# Altium schematic symbol library Altium_Library_Design.SchLib: 234 symbols (part 1 of 2)
Pins are listed as number, name and electrical type; pins without a type are passive.

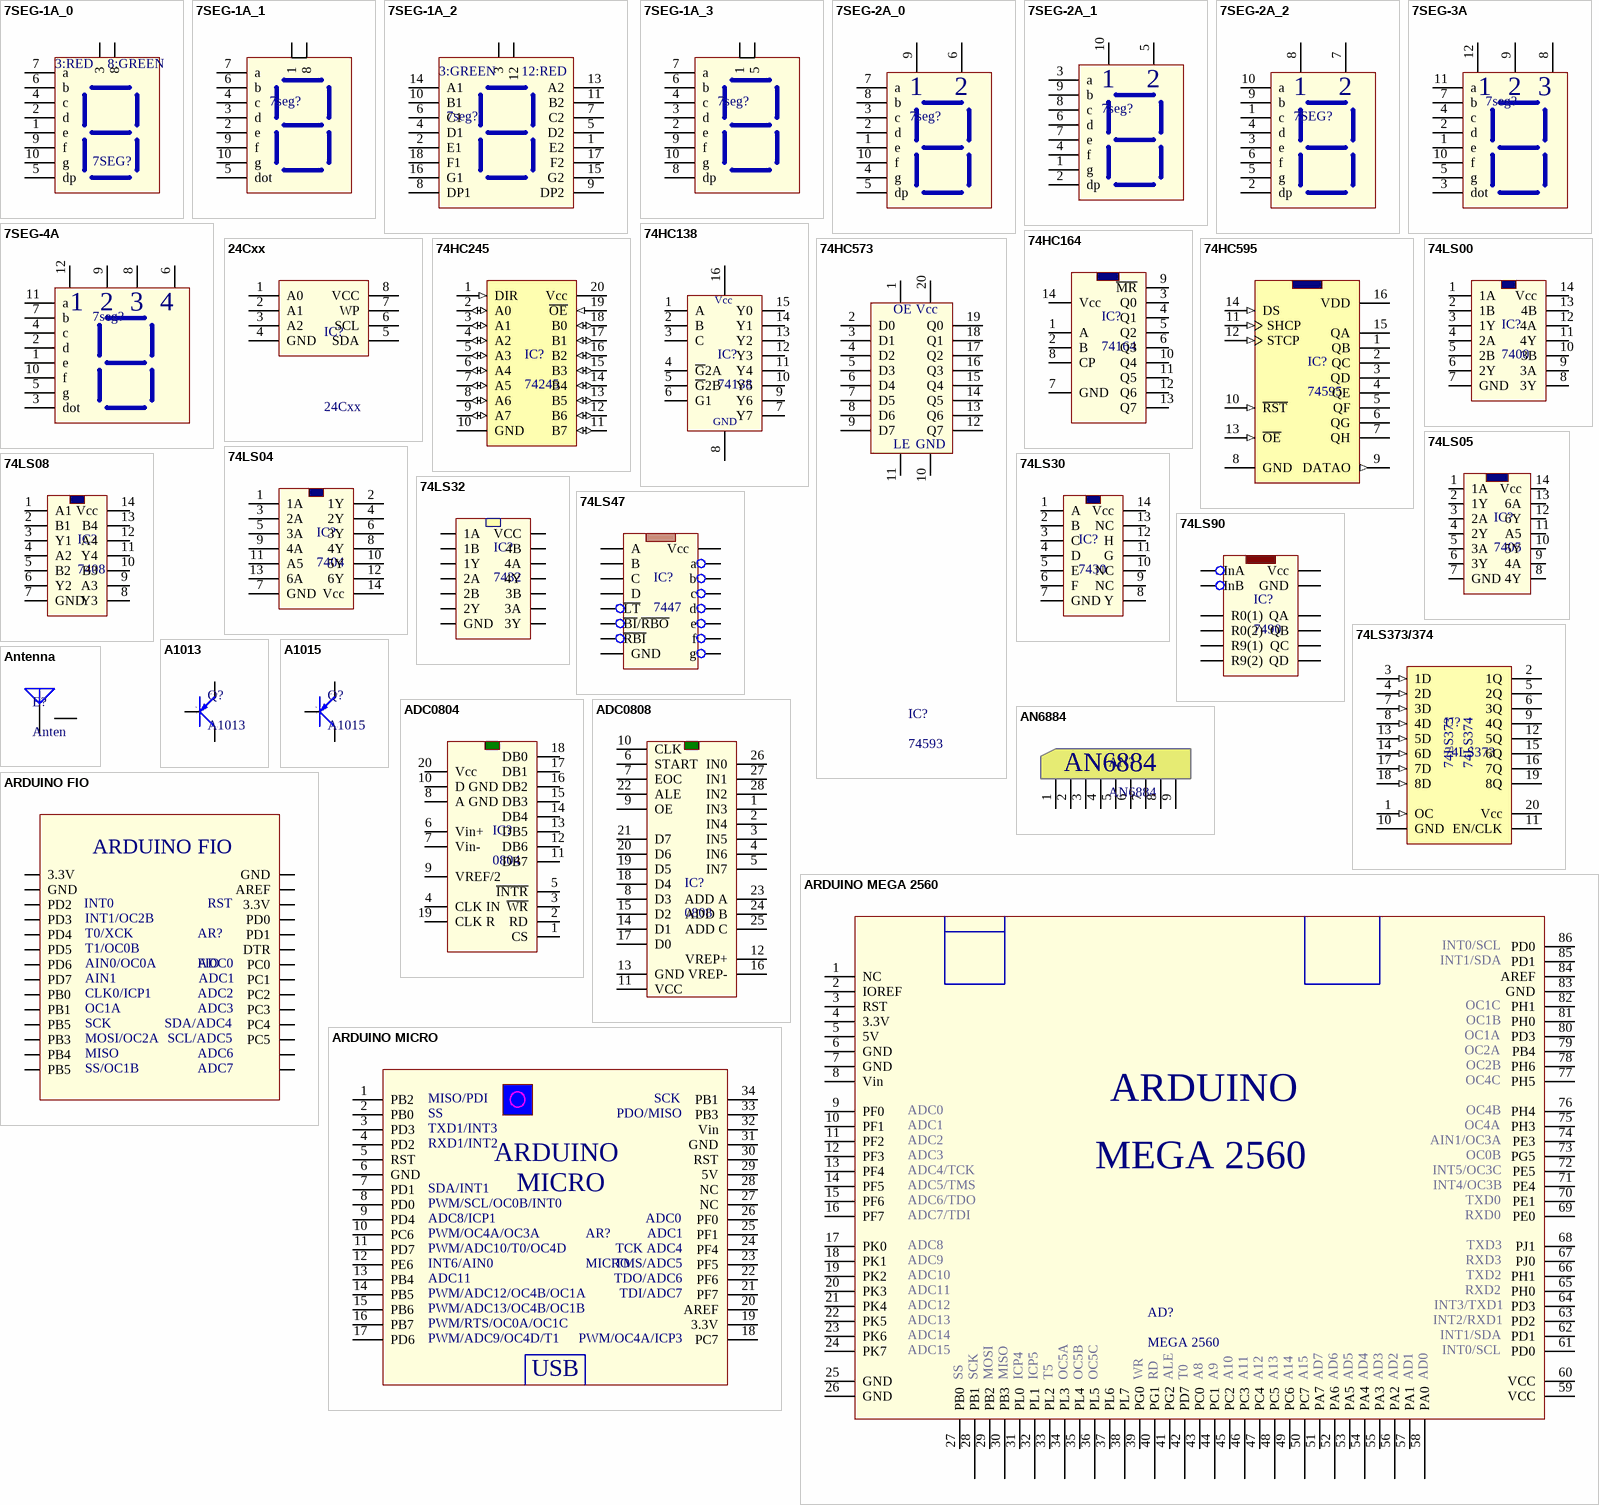
[diagram p0: symbols 7SEG-1A_0 to ARDUINO MICRO]

## 7SEG-1A_0
designator 7SEG?, comment 7seg  (value not drawn)
3,8 CHUNG
footprint 7SEG-4-1A (9V)
footprint 7SEG-1-1A (1.8-2V)
footprint 7SEG-0.8-1A (3-3.6V)
footprint 7SEG-0.56-1A (1.8-2V)
pins: 1 e, 2 d, 3, 4 c, 5 dp, 6 b, 7 a, 8, 9 f, 10 g
text: 3:RED; 8:GREEN

## 7SEG-1A_1
designator 7seg?, comment 5IN-1A  (value not drawn)
1,8 CHUNG
footprint 7SEG-5-1A (12V)
pins: 1, 2 e, 3 d, 4 c, 5 dot, 6 b, 7 a, 8, 9 f, 10 g

## 7SEG-1A_2
designator 7seg?, comment 7seg  (value not drawn)
3,12CHUNG
footprint 7SEG-3-1A-77.6 (2,8-3,1V)
pins: 1 E2, 2 E1, 3, 4 D1, 5 D2, 6 C1, 7 C2, 8 DP1, 9 DP2, 10 B1, 11 B2, 12, 13 A2, 14 A1, 15 G2, 16 G1, 17 F2, 18 F1
text: 3:GREEN; 12:RED

## 7SEG-1A_3
designator 7seg?, comment 7seg  (value not drawn)
1,5 CHUNG
footprint 7SEG-2.3-1A (7.2V)
footprint 7SEG-1.8-1A (6V)
footprint 7SEG-1.5-1A (4V)
footprint 7SEG-1.2-1A (2.8-3.1V)
footprint 7SEG-3-1A-78.5 (7,2V)
footprint 7SEG-3-1A-81.3 (7,2V)
pins: 1, 2 e, 3 d, 4 c, 5, 6 b, 7 a, 8 dp, 9 f, 10 g

## 7SEG-2A_0
designator 7seg?, comment 7seg  (value not drawn)
9,6 CHUNG
footprint 7SEG-0.28-2A (1.8V)
pins: 1 e, 2 d, 3 c, 4 g, 5 dp, 6, 7 a, 8 b, 9, 10 f

## 7SEG-2A_1
designator 7seg?, comment 7seg  (value not drawn)
10,5 CHUNG
footprint 7SEG-0.36-2A
pins: 1 g, 2 dp, 3 a, 4 f, 5, 6 d, 7 e, 8 c, 9 b, 10

## 7SEG-2A_2
designator 7SEG?, comment 7SEG  (value not drawn)
8,7 CHUNG
footprint 7SEG-0.56-2A (1.8-2V)
pins: 1 c, 2 dp, 3 e, 4 d, 5 g, 6 f, 7, 8, 9 b, 10 a

## 7SEG-3A
designator 7seg?, comment 7seg  (value not drawn)
12,9,8 CHUNG
footprint 7SEG-0.28-3A (1.8V)
footprint 7SEG-0.36-3A-8.5
footprint 7SEG-0.36-3A-15.24
footprint 7SEG-0.56-3A (1.8-2V)
pins: 1 e, 2 d, 3 dot, 4 c, 5 g, 7 b, 8, 9, 10 f, 11 a, 12

## 7SEG-4A
designator 7seg?, comment 7seg  (value not drawn)
12,9,8,6 CHUNG
footprint 7SEG-0.28-4A (1.8V)
footprint 7SEG-0.36-4A
footprint 7SEG-0.56-4A (Footprint not found)
pins: 1 e, 2 d, 3 dot, 4 c, 5 g, 6, 7 b, 8, 9, 10 f, 11 a, 12

## 24Cxx
designator IC?
Serial EEPROM; Value: DIP 8; Value: 24Cxx; Copyright by: VanDungEvn
footprint DIP8-V0-Package
pins: 1 A0, 2 A1, 3 A2, 4 GND (power), 5 SDA, 6 SCL, 7 WP, 8 VCC (power)

## 74HC138
designator IC?, comment 74138
IN 3 --> OUT 8
footprint DIP16-V0-Package
pins: 1 A, 2 B, 3 C, 4 ~{G}2A, 5 ~{G}2B, 6 G1, 7 Y7, 8 GND (power), 9 Y6, 10 Y5, 11 Y4, 12 Y3, 13 Y2, 14 Y1, 15 Y0, 16 VCC (power)
text: Vcc

## 74HC164
designator IC?, comment 74164
footprint DIP14-V0-Package
pins: 1 A, 2 B, 3 Q0, 4 Q1, 5 Q2, 6 Q3, 7 GND, 8 CP, 9 ~{MR}, 10 Q4, 11 Q5, 12 Q6, 13 Q7, 14 Vcc

## 74HC245
designator IC?, comment 74245
footprint DIP20-V0-Package
pins: 1 DIR (in), 2 A0 (io), 3 A1 (io), 4 A2 (io), 5 A3 (io), 6 A4 (io), 7 A5 (io), 8 A6 (io), 9 A7 (io), 10 GND (power), 11 B7 (io), 12 B6 (io), 13 B5 (io), 14 B4 (io), 15 B3 (io), 16 B2 (io), 17 B1 (io), 18 B0 (io), 19 ~{OE} (in), 20 Vcc (power)

## 74HC573
designator IC?, comment 74593
footprint DIP20-V0-Package
pins: 1 ~{OE}, 2 D0, 3 D1, 4 D2, 5 D3, 6 D4, 7 D5, 8 D6, 9 D7, 10 GND (power), 11 LE, 12 Q7, 13 Q6, 14 Q5, 15 Q4, 16 Q3, 17 Q2, 18 Q1, 19 Q0, 20 Vcc (power)
text: OE

## 74HC595
designator IC?, comment 74595
IC ghi dich; 74HC573: giai ma; 74HC595: ghi dich
footprint DIP16-V0-Package
pins: 1 QB (hiz), 2 QC (hiz), 3 QD (hiz), 4 QE (hiz), 5 QF (hiz), 6 QG (hiz), 7 QH (hiz), 8 GND (power), 9 DATAO (out), 10 ~{RST} (in), 11 SHCP (in), 12 STCP (in), 13 ~{OE} (in), 14 DS (in), 15 QA (hiz), 16 VDD (power)

## 74LS00
designator IC?, comment 7400
NAND 2 input
footprint DIP14-V0-Package
pins: 1 1A, 2 1B, 3 1Y, 4 2A, 5 2B, 6 2Y, 7 GND, 8 3Y, 9 3A, 10 3B, 11 4Y, 12 4A, 13 4B, 14 Vcc

## 74LS04
designator IC?, comment 7404
NOT; 74LS04: NOT; 74LS05: NOT; 74LS06: NOT
footprint DIP14-V0-Package
footprint DIP14-V1-Package
pins: 1 1A, 2 1Y, 3 2A, 4 2Y, 5 3A, 6 3Y, 7 GND, 8 4Y, 9 4A, 10 5Y, 11 A5, 12 6Y, 13 6A, 14 Vcc

## 74LS05
designator IC?, comment 7405
NOT; 74LS04: NOT; 74LS05: NOT; 74LS06: NOT
footprint DIP14-V0-Package
footprint DIP14-V1-Package
pins: 1 1A, 2 1Y, 3 2A, 4 2Y, 5 3A, 6 3Y, 7 GND, 8 4Y, 9 4A, 10 5Y, 11 A5, 12 6Y, 13 6A, 14 Vcc

## 74LS08
designator IC?, comment 7408
AND 2 input
footprint DIP14-V0-Package
footprint DIP14-V1-Package
pins: 1 A1, 2 B1, 3 Y1, 4 A2, 5 B2, 6 Y2, 7 GND, 8 Y3, 9 A3, 10 B3, 11 Y4, 12 A4, 13 B4, 14 Vcc

## 74LS30
designator IC?, comment 7430
NAND 8 input
footprint DIP14-V0-Package
footprint DIP14-V1-Package
pins: 1 A, 2 B, 3 C, 4 D, 5 E, 6 F, 7 GND, 8 Y, 9 NC, 10 NC, 11 G, 12 H, 13 NC, 14 Vcc

## 74LS32
designator IC?, comment 7432
OR 2 INPUT
footprint DIP14-V0-Package
footprint DIP14-V1-Package
pins: 1 1A, 2 1B, 3 1Y, 4 2A, 5 2B, 6 2Y, 7 GND, 8 3Y, 9 3A, 10 3B, 11 4Y, 12 4A, 13 4B, 14 VCC

## 74LS47
designator IC?, comment 7447
Decoder BCD --> 7seg
footprint DIP16-V0-Package
pins: 1 B, 2 C, 3 ~{LT}, 4 ~{BI}/~{RBO}, 5 ~{RBI}, 6 D, 7 A, 8 GND, 9 e, 10 d, 11 c, 12 b, 13 a, 14 g, 15 f, 16 Vcc

## 74LS90
designator IC?, comment 7490
Count binary withKd = 10
footprint DIP14-V0-Package
footprint DIP14-V1-Package
pins: 1 InB, 2 R0(1), 3 R0(2), 5 Vcc, 6 R9(1), 7 R9(2), 8 QC, 9 QB, 10 GND, 11 QD, 12 QA, 14 InA

## 74LS373/374
designator U?, comment 74LS373
IC buffer
footprint DIP20-V0-Package
pins: 1 OC (in), 2 1Q (oc), 3 1D (in), 4 2D (in), 5 2Q (oc), 6 3Q (oc), 7 3D (in), 8 4D (in), 9 4Q (oc), 10 GND, 11 EN/CLK, 12 5Q (oc), 13 5D (in), 14 6D (in), 15 6Q (oc), 16 7Q (oc), 17 7D (in), 18 8D (in), 19 8Q (power), 20 Vcc
text: 74LS374

## A1013
designator Q?
PNP E-->C
footprint TO-92
pins: 1 E, 2 C, 3 B

## A1015
designator Q?
PNP E-->C
footprint TO-92
pins: 1 E, 2 C, 3 B

## ADC0804
designator IC?, comment 0804
footprint DIP20-V0-Package
pins: 1 CS, 2 RD, 3 ~{WR}, 4 CLK IN, 5 ~{INTR}, 6 Vin+, 7 Vin-, 8 A GND, 9 VREF/2, 10 D GND, 11 DB7, 12 DB6, 13 DB5, 14 DB4, 15 DB3, 16 DB2, 17 DB1, 18 DB0, 19 CLK R, 20 Vcc

## ADC0808
designator IC?, comment 0808
footprint DIP28-V1-Package (15.24m)
pins: 1 IN3, 2 IN4, 3 IN5, 4 IN6, 5 IN7, 6 START, 7 EOC, 8 D3, 9 OE, 10 CLK, 11 VCC, 12 VREP+, 13 GND, 14 D1, 15 D2, 16 VREP-, 17 D0, 18 D4, 19 D5, 20 D6, 21 D7, 22 ALE, 23 ADD A, 24 ADD B, 25 ADD C, 26 IN0, 27 IN1, 28 IN2

## AN6884
designator AN?
footprint RN8_1 (A001)
pins: 1, 2, 3, 4, 5, 6, 7, 8, 9

## Antenna
designator E?, comment Anten
footprint ANTEN-V0
footprint ANTEN-V1 (Footprint not found)
footprint ANTEN-V2
pins: 1 A, 2

## ARDUINO FIO
designator AR?, comment FIO
3.3V-8MHz-8AIN-14DIO-6PWM
footprint ARDUINO FIO V0 (ATmega 328P)
pins: 1 3.3V, 2 GND, 3 PD2, 4 PD3, 5 PD4, 6 PD5, 7 PD6, 8 PD7, 9 PB0, 10 PB1, 11 PB5, 12 PB3, 13 PB4, 14 PB5, 15 PC5, 16, 17 PC5, 18 PC4, 19 PC3, 20 PC2, 21 PC1, 22 PC0, 23 DTR, 24 PD1, 25 PD0, 26 3.3V, 27 AREF, 28 GND
text: ARDUINO; INT0; RST; INT1/OC2B; T0/XCK; T1/OC0B; AIN0/OC0A; ADC0; AIN1; ADC1; CLK0/ICP1; ADC2; OC1A; ADC3; SCK; SDA/ADC4; MOSI/OC2A; SCL/ADC5; MISO; ADC6; SS/OC1B; ADC7

## ARDUINO MEGA 2560
designator AD?, comment MEGA 2560
5V-16MHz-16AIN-54DIO-15PWM
footprint ARDUINO MEGA V0 (ATmega 2560)
footprint ARDUINO MEGA V1 (ATmega 2560)
pins: 1 NC, 2 IOREF, 3 RST, 4 3.3V, 5 5V, 6 GND, 7 GND, 8 Vin, 9 PF0, 10 PF1, 11 PF2, 12 PF3, 13 PF4, 14 PF5, 15 PF6, 16 PF7, 17 PK0, 18 PK1, 19 PK2, 20 PK3, 21 PK4, 22 PK5, 23 PK6, 24 PK7, 25 GND, 26 GND, 27 PB0, 28 PB1, 29 PB2, 30 PB3, 31 PL0, 32 PL1, 33 PL2, 34 PL3, 35 PL4, 36 PL5, 37 PL6, 38 PL7, 39 PG0, 40 PG1, 41 PG2, 42 PD7, 43 PC0, 44 PC1, 45 PC2, 46 PC3, 47 PC4, 48 PC5, 49 PC6, 50 PC7, 51 PA7, 52 PA6, 53 PA5, 54 PA4, 55 PA3, 56 PA2, 57 PA1, 58 PA0, 59 VCC, 60 VCC, 61 PD0, 62 PD1, 63 PD2, 64 PD3, 65 PH0, 66 PH1, 67 PJ0, 68 PJ1, 69 PE0, 70 PE1, 71 PE4, 72 PE5, 73 PG5, 74 PE3, 75 PH3, 76 PH4, 77 PH5, 78 PH6, 79 PB4, 80 PD3, 81 PH0, 82 PH1, 83 GND, 84 AREF, 85 PD1, 86 PD0
text: INT0/SCL; INT1/SDA; OC1C; OC1B; OC1A; OC2A; OC2B; OC4C; ARDUINO; ADC0; OC4B; ADC1; OC4A; ADC2; AIN1/OC3A; ADC3; OC0B; ADC4/TCK; INT5/OC3C; ADC5/TMS; INT4/OC3B; ADC6/TDO; TXD0; ADC7/TDI; RXD0; ADC8; TXD3; ADC9; RXD3; ADC10; TXD2; ADC11; RXD2; ADC12; INT3/TXD1; ADC13; INT2/RXD1; ADC14; ADC15; SS; SCK; MOSI; MISO; ICP4; ICP5; T5; OC5A; OC5B; OC5C; WR; RD; ALE; T0; A8; A9; A10; A11; A12; A13; A14; A15; AD7; AD6; AD5; AD4; AD3; AD2; AD1; AD0

## ARDUINO MICRO
designator AR?, comment MICRO
5V-16MHz-12AIN-20DIO-7PWM
footprint ARDUINO MICRO V0 (ATmega 32U4)
pins: 1 PB2, 2 PB0, 3 PD3, 4 PD2, 5 RST, 6 GND, 7 PD1, 8 PD0, 9 PD4, 10 PC6, 11 PD7, 12 PE6, 13 PB4, 14 PB5, 15 PB6, 16 PB7, 17 PD6, 18 PC7, 19 3.3V, 20 AREF, 21 PF7, 22 PF6, 23 PF5, 24 PF4, 25 PF1, 26 PF0, 27 NC, 28 NC, 29 5V, 30 RST, 31 GND, 32 Vin, 33 PB3, 34 PB1
text: MISO/PDI; SCK; SS; PDO/MISO; TXD1/INT3; RXD1/INT2; ARDUINO; SDA/INT1; PWM/SCL/OC0B/INT0; ADC8/ICP1; ADC0; PWM/OC4A/OC3A; ADC1; PWM/ADC10/T0/OC4D; TCK ADC4; INT6/AIN0; TMS/ADC5; ADC11; TDO/ADC6; PWM/ADC12/OC4B/OC1A; TDI/ADC7; PWM/ADC13/OC4B/OC1B; PWM/RTS/OC0A/OC1C; PWM/ADC9/OC4D/T1; PWM/OC4A/ICP3; USB

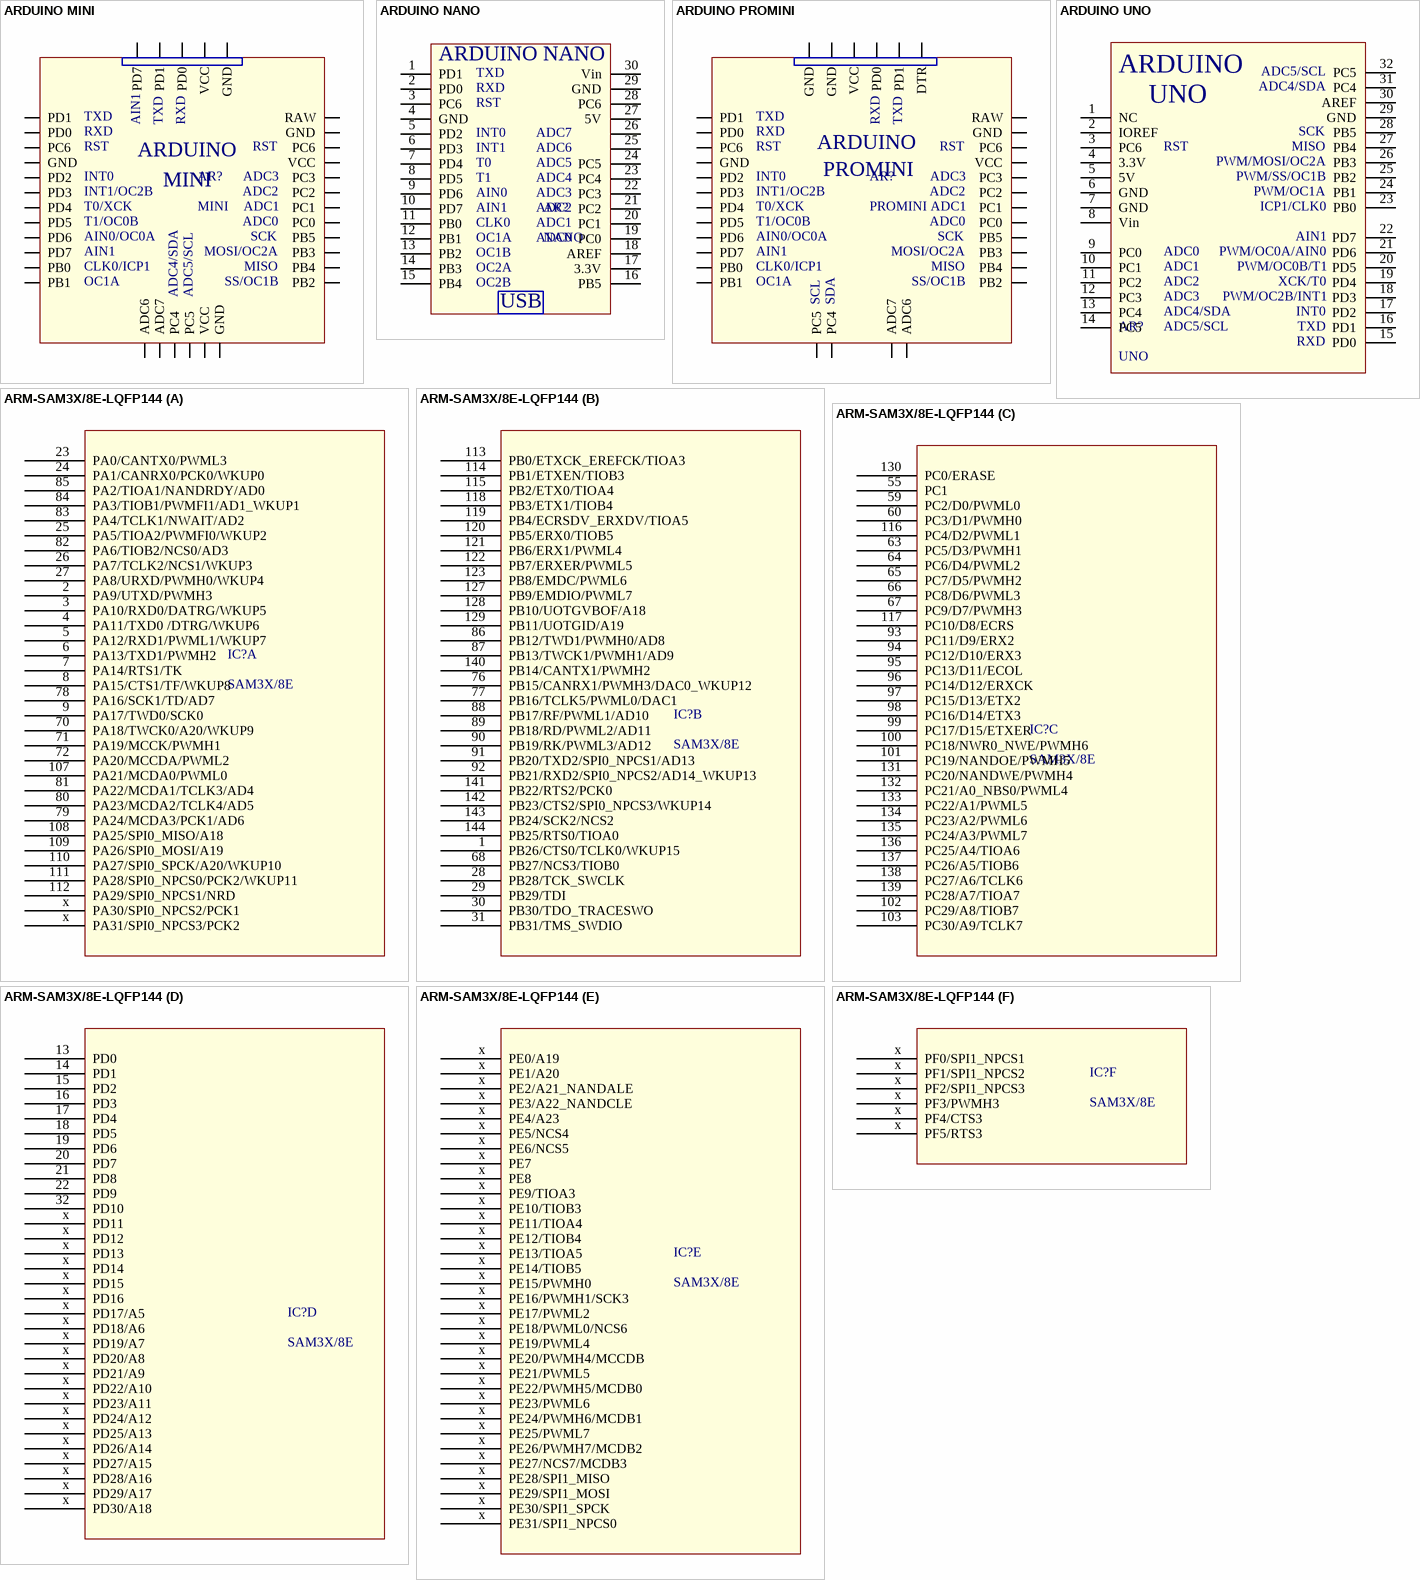
[diagram p1: symbols ARDUINO MINI to ARM-SAM3X/8E-LQFP144]

## ARDUINO MINI
designator AR?, comment MINI
5V-16MHz-8AIN-14DIO-6PWM
footprint ARDUINO MINI V0 (ATmega 168)
pins: 1 PD1, 2 PD0, 3 PC6, 4 GND, 5 PD2, 6 PD3, 7 PD4, 8 PD5, 9 PD6, 10 PD7, 11 PB0, 12 PB1, 13 PB2, 14 PB4, 15 PB3, 16 PB5, 17 PC0, 18 PC1, 19 PC2, 20 PC3, 21 VCC, 22 PC6, 23 GND, 24 RAW, 25 GND, 26 VCC, 27 PD0, 28 PD1, 29 PD7, 30 ADC6, 31 ADC7, 32 PC4, 33 PC5, 34 VCC, 35 GND
text: TXD; AIN1; RXD; RST; ARDUINO; INT0; ADC3; INT1/OC2B; ADC2; T0/XCK; ADC1; T1/OC0B; ADC0; AIN0/OC0A; SCK; MOSI/OC2A; CLK0/ICP1; MISO; OC1A; SS/OC1B; ADC4/SDA; ADC5/SCL

## ARDUINO NANO
designator AR?, comment NANO
5V-16MHz-8AIN-14DIO-6PWM
footprint ARDUINO NANO V0 (ATmega 328/168)
pins: 1 PD1, 2 PD0, 3 PC6, 4 GND, 5 PD2, 6 PD3, 7 PD4, 8 PD5, 9 PD6, 10 PD7, 11 PB0, 12 PB1, 13 PB2, 14 PB3, 15 PB4, 16 PB5, 17 3.3V, 18 AREF, 19 PC0, 20 PC1, 21 PC2, 22 PC3, 23 PC4, 24 PC5, 25 ADC6, 26 ADC7, 27 5V, 28 PC6, 29 GND, 30 Vin
text: TXD; RXD; RST; INT0; INT1; T0; ADC5; T1; ADC4; AIN0; ADC3; AIN1; ADC2; CLK0; ADC1; OC1A; ADC0; OC1B; OC2A; OC2B; USB

## ARDUINO PROMINI
designator AR?, comment PROMINI
3.3/5V-8/16MHz-6IN-14DIO-6PWM
footprint ARDUINO PROMINI V0 (ATmega 328)
pins: 1 PD1, 2 PD0, 3 PC6, 4 GND, 5 PD2, 6 PD3, 7 PD4, 8 PD5, 9 PD6, 10 PD7, 11 PB0, 12 PB1, 13 PB2, 14 PB4, 15 PB3, 16 PB5, 17 PC0, 18 PC1, 19 PC2, 20 PC3, 21 VCC, 22 PC6, 23 GND, 24 RAW, 25 DTR, 26 PD1, 27 PD0, 28 VCC, 29 GND, 30 GND, 31 PC5, 32 PC4, 33 ADC7, 34 ADC6
text: TXD; RXD; RST; ARDUINO; INT0; ADC3; INT1/OC2B; ADC2; T0/XCK; ADC1; T1/OC0B; ADC0; AIN0/OC0A; SCK; AIN1; MOSI/OC2A; CLK0/ICP1; MISO; OC1A; SS/OC1B; SCL; SDA

## ARDUINO UNO
designator AR?, comment UNO
5V-16MHz-6AIN-14DIO-6PWM
footprint ARDUINO UNO V1 (ATmega 328)
footprint ARDUINO UNO V0 (ATmega 328)
pins: 1 NC, 2 IOREF, 3 PC6, 4 3.3V, 5 5V, 6 GND, 7 GND, 8 Vin, 9 PC0, 10 PC1, 11 PC2, 12 PC3, 13 PC4, 14 PC5, 15 PD0, 16 PD1, 17 PD2, 18 PD3, 19 PD4, 20 PD5, 21 PD6, 22 PD7, 23 PB0, 24 PB1, 25 PB2, 26 PB3, 27 PB4, 28 PB5, 29 GND, 30 AREF, 31 PC4, 32 PC5
text: ARDUINO; ADC5/SCL; ADC4/SDA; SCK; RST; MISO; PWM/MOSI/OC2A; PWM/SS/OC1B; PWM/OC1A; ICP1/CLK0; AIN1; ADC0; PWM/OC0A/AIN0; ADC1; PWM/OC0B/T1; ADC2; XCK/T0; ADC3; PWM/OC2B/INT1; INT0; TXD; RXD

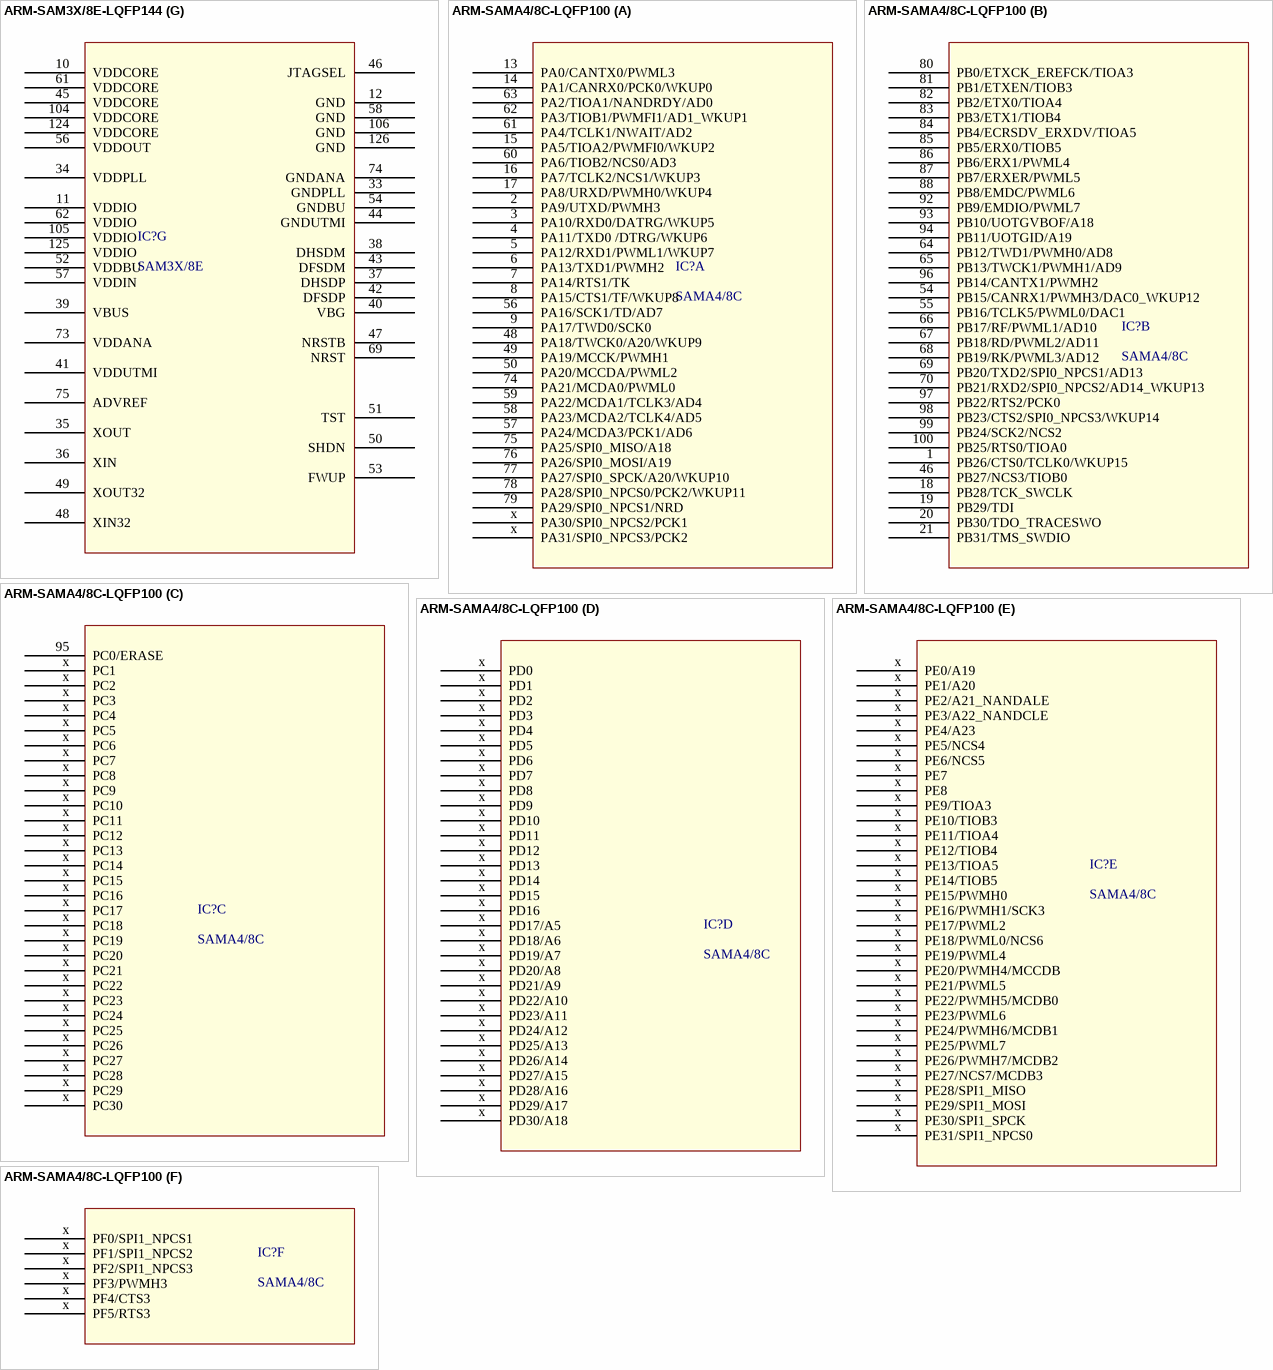
[diagram p2: symbols ARM-SAM3X/8E-LQFP144 to ARM-SAMA4/8C-LQFP100]

## ARM-SAM3X/8E-LQFP144
designator IC?, comment SAM3X/8E
footprint LQFP144-Package
part A pins: 2 PA9/UTXD/PWMH3, 3 PA10/RXD0/DATRG/WKUP5, 4 PA11/TXD0 /DTRG/WKUP6, 5 PA12/RXD1/PWML1/WKUP7, 6 PA13/TXD1/PWMH2, 7 PA14/RTS1/TK, 8 PA15/CTS1/TF/WKUP8, 9 PA17/TWD0/SCK0, 23 PA0/CANTX0/PWML3, 24 PA1/CANRX0/PCK0/WKUP0, 25 PA5/TIOA2/PWMFI0/WKUP2, 26 PA7/TCLK2/NCS1/WKUP3, 27 PA8/URXD/PWMH0/WKUP4, 70 PA18/TWCK0/A20/WKUP9, 71 PA19/MCCK/PWMH1, 72 PA20/MCCDA/PWML2, 78 PA16/SCK1/TD/AD7, 79 PA24/MCDA3/PCK1/AD6, 80 PA23/MCDA2/TCLK4/AD5, 81 PA22/MCDA1/TCLK3/AD4, 82 PA6/TIOB2/NCS0/AD3, 83 PA4/TCLK1/NWAIT/AD2, 84 PA3/TIOB1/PWMFI1/AD1_WKUP1, 85 PA2/TIOA1/NANDRDY/AD0, 107 PA21/MCDA0/PWML0, 108 PA25/SPI0_MISO/A18, 109 PA26/SPI0_MOSI/A19, 110 PA27/SPI0_SPCK/A20/WKUP10, 111 PA28/SPI0_NPCS0/PCK2/WKUP11, 112 PA29/SPI0_NPCS1/NRD, x PA31/SPI0_NPCS3/PCK2, x PA30/SPI0_NPCS2/PCK1
part B pins: 1 PB26/CTS0/TCLK0/WKUP15, 28 PB28/TCK_SWCLK, 29 PB29/TDI, 30 PB30/TDO_TRACESWO, 31 PB31/TMS_SWDIO, 68 PB27/NCS3/TIOB0, 76 PB15/CANRX1/PWMH3/DAC0_WKUP12, 77 PB16/TCLK5/PWML0/DAC1, 86 PB12/TWD1/PWMH0/AD8, 87 PB13/TWCK1/PWMH1/AD9, 88 PB17/RF/PWML1/AD10, 89 PB18/RD/PWML2/AD11, 90 PB19/RK/PWML3/AD12, 91 PB20/TXD2/SPI0_NPCS1/AD13, 92 PB21/RXD2/SPI0_NPCS2/AD14_WKUP13, 113 PB0/ETXCK_EREFCK/TIOA3 , 114 PB1/ETXEN/TIOB3, 115 PB2/ETX0/TIOA4, 118 PB3/ETX1/TIOB4, 119 PB4/ECRSDV_ERXDV/TIOA5, 120 PB5/ERX0/TIOB5, 121 PB6/ERX1/PWML4 , 122 PB7/ERXER/PWML5, 123 PB8/EMDC/PWML6, 127 PB9/EMDIO/PWML7, 128 PB10/UOTGVBOF/A18, 129 PB11/UOTGID/A19, 140 PB14/CANTX1/PWMH2, 141 PB22/RTS2/PCK0, 142 PB23/CTS2/SPI0_NPCS3/WKUP14, 143 PB24/SCK2/NCS2, 144 PB25/RTS0/TIOA0
part C pins: 55 PC1, 59 PC2/D0/PWML0, 60 PC3/D1/PWMH0, 63 PC5/D3/PWMH1, 64 PC6/D4/PWML2, 65 PC7/D5/PWMH2, 66 PC8/D6/PWML3, 67 PC9/D7/PWMH3, 93 PC11/D9/ERX2, 94 PC12/D10/ERX3, 95 PC13/D11/ECOL, 96 PC14/D12/ERXCK, 97 PC15/D13/ETX2, 98 PC16/D14/ETX3, 99 PC17/D15/ETXER, 100 PC18/NWR0_NWE/PWMH6, 101 PC19/NANDOE/PWMH5, 102 PC29/A8/TIOB7, 103 PC30/A9/TCLK7, 116 PC4/D2/PWML1, 117 PC10/D8/ECRS, 130 PC0/ERASE, 131 PC20/NANDWE/PWMH4, 132 PC21/A0_NBS0/PWML4, 133 PC22/A1/PWML5, 134 PC23/A2/PWML6, 135 PC24/A3/PWML7, 136 PC25/A4/TIOA6, 137 PC26/A5/TIOB6, 138 PC27/A6/TCLK6, 139 PC28/A7/TIOA7
part D pins: 13 PD0, 14 PD1, 15 PD2, 16 PD3, 17 PD4, 18 PD5, 19 PD6, 20 PD7, 21 PD8, 22 PD9, 32 PD10, x PD11, x PD12, x PD13, x PD14, x PD15, x PD16, x PD17/A5, x PD18/A6, x PD19/A7, x PD20/A8, x PD21/A9, x PD22/A10, x PD23/A11, x PD24/A12, x PD25/A13, x PD26/A14, x PD27/A15, x PD28/A16, x PD29/A17, x PD30/A18
part E pins: x PE0/A19, x PE1/A20, x PE2/A21_NANDALE, x PE3/A22_NANDCLE, x PE4/A23, x PE5/NCS4, x PE6/NCS5, x PE7, x PE8, x PE9/TIOA3, x PE10/TIOB3, x PE11/TIOA4, x PE12/TIOB4, x PE13/TIOA5, x PE14/TIOB5, x PE15/PWMH0, x PE16/PWMH1/SCK3, x PE17/PWML2, x PE18/PWML0/NCS6, x PE19/PWML4, x PE20/PWMH4/MCCDB, x PE21/PWML5, x PE22/PWMH5/MCDB0, x PE23/PWML6, x PE24/PWMH6/MCDB1, x PE25/PWML7, x PE26/PWMH7/MCDB2, x PE27/NCS7/MCDB3, x PE28/SPI1_MISO, x PE29/SPI1_MOSI, x PE30/SPI1_SPCK, x PE31/SPI1_NPCS0
part F pins: x PF0/SPI1_NPCS1, x PF1/SPI1_NPCS2, x PF2/SPI1_NPCS3, x PF3/PWMH3, x PF4/CTS3, x PF5/RTS3
part G pins: 10 VDDCORE, 11 VDDIO, 12 GND, 33 GNDPLL, 34 VDDPLL, 35 XOUT, 36 XIN, 37 DHSDP, 38 DHSDM, 39 VBUS, 40 VBG, 41 VDDUTMI, 42 DFSDP, 43 DFSDM, 44 GNDUTMI, 45 VDDCORE, 46 JTAGSEL, 47 NRSTB, 48 XIN32, 49 XOUT32, 50 SHDN, 51 TST, 52 VDDBU, 53 FWUP, 54 GNDBU, 56 VDDOUT, 57 VDDIN, 58 GND, 61 VDDCORE, 62 VDDIO, 69 NRST, 73 VDDANA, 74 GNDANA, 75 ADVREF, 104 VDDCORE, 105 VDDIO, 106 GND, 124 VDDCORE, 125 VDDIO, 126 GND

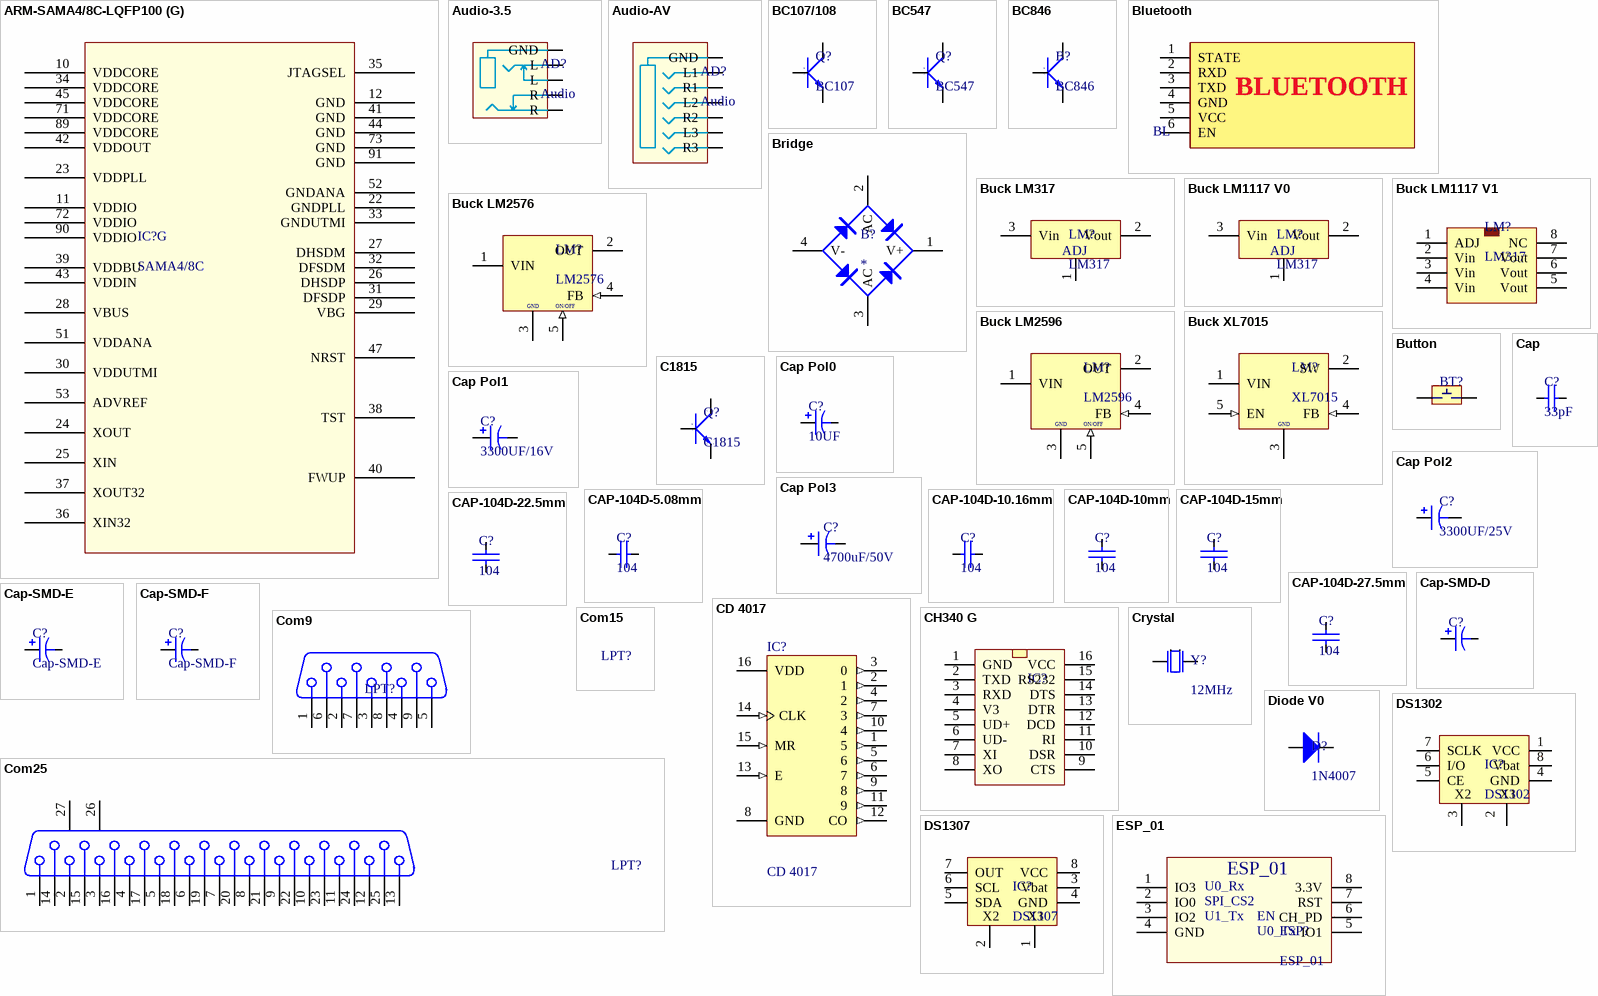
[diagram p3: symbols ARM-SAMA4/8C-LQFP100 to ESP_01]

## ARM-SAMA4/8C-LQFP100
designator IC?, comment SAMA4/8C
footprint LQFP100-P-1414-0.50G-Package (LQFP100-P-1414-0.50G)
part A pins: 2 PA9/UTXD/PWMH3, 3 PA10/RXD0/DATRG/WKUP5, 4 PA11/TXD0 /DTRG/WKUP6, 5 PA12/RXD1/PWML1/WKUP7, 6 PA13/TXD1/PWMH2, 7 PA14/RTS1/TK, 8 PA15/CTS1/TF/WKUP8, 9 PA17/TWD0/SCK0, 13 PA0/CANTX0/PWML3, 14 PA1/CANRX0/PCK0/WKUP0, 15 PA5/TIOA2/PWMFI0/WKUP2, 16 PA7/TCLK2/NCS1/WKUP3, 17 PA8/URXD/PWMH0/WKUP4, 48 PA18/TWCK0/A20/WKUP9, 49 PA19/MCCK/PWMH1, 50 PA20/MCCDA/PWML2, 56 PA16/SCK1/TD/AD7, 57 PA24/MCDA3/PCK1/AD6, 58 PA23/MCDA2/TCLK4/AD5, 59 PA22/MCDA1/TCLK3/AD4, 60 PA6/TIOB2/NCS0/AD3, 61 PA4/TCLK1/NWAIT/AD2, 62 PA3/TIOB1/PWMFI1/AD1_WKUP1, 63 PA2/TIOA1/NANDRDY/AD0, 74 PA21/MCDA0/PWML0, 75 PA25/SPI0_MISO/A18, 76 PA26/SPI0_MOSI/A19, 77 PA27/SPI0_SPCK/A20/WKUP10, 78 PA28/SPI0_NPCS0/PCK2/WKUP11, 79 PA29/SPI0_NPCS1/NRD, x PA31/SPI0_NPCS3/PCK2, x PA30/SPI0_NPCS2/PCK1
part B pins: 1 PB26/CTS0/TCLK0/WKUP15, 18 PB28/TCK_SWCLK, 19 PB29/TDI, 20 PB30/TDO_TRACESWO, 21 PB31/TMS_SWDIO, 46 PB27/NCS3/TIOB0, 54 PB15/CANRX1/PWMH3/DAC0_WKUP12, 55 PB16/TCLK5/PWML0/DAC1, 64 PB12/TWD1/PWMH0/AD8, 65 PB13/TWCK1/PWMH1/AD9, 66 PB17/RF/PWML1/AD10, 67 PB18/RD/PWML2/AD11, 68 PB19/RK/PWML3/AD12, 69 PB20/TXD2/SPI0_NPCS1/AD13, 70 PB21/RXD2/SPI0_NPCS2/AD14_WKUP13, 80 PB0/ETXCK_EREFCK/TIOA3 , 81 PB1/ETXEN/TIOB3, 82 PB2/ETX0/TIOA4, 83 PB3/ETX1/TIOB4, 84 PB4/ECRSDV_ERXDV/TIOA5, 85 PB5/ERX0/TIOB5, 86 PB6/ERX1/PWML4 , 87 PB7/ERXER/PWML5, 88 PB8/EMDC/PWML6, 92 PB9/EMDIO/PWML7, 93 PB10/UOTGVBOF/A18, 94 PB11/UOTGID/A19, 96 PB14/CANTX1/PWMH2, 97 PB22/RTS2/PCK0, 98 PB23/CTS2/SPI0_NPCS3/WKUP14, 99 PB24/SCK2/NCS2, 100 PB25/RTS0/TIOA0
part C pins: 95 PC0/ERASE, x PC1, x PC2, x PC3, x PC4, x PC5, x PC6, x PC7, x PC8, x PC9, x PC10, x PC11, x PC12, x PC13, x PC14, x PC15, x PC16, x PC17, x PC18, x PC19, x PC20, x PC21, x PC22, x PC23, x PC24, x PC25, x PC26, x PC27, x PC28, x PC29, x PC30
part D pins: x PD0, x PD1, x PD2, x PD3, x PD4, x PD10, x PD5, x PD6, x PD7, x PD8, x PD9, x PD11, x PD12, x PD13, x PD14, x PD15, x PD16, x PD17/A5, x PD18/A6, x PD19/A7, x PD20/A8, x PD21/A9, x PD22/A10, x PD23/A11, x PD24/A12, x PD25/A13, x PD26/A14, x PD27/A15, x PD28/A16, x PD29/A17, x PD30/A18
part E pins: x PE0/A19, x PE1/A20, x PE2/A21_NANDALE, x PE3/A22_NANDCLE, x PE4/A23, x PE5/NCS4, x PE6/NCS5, x PE7, x PE8, x PE9/TIOA3, x PE10/TIOB3, x PE11/TIOA4, x PE12/TIOB4, x PE13/TIOA5, x PE14/TIOB5, x PE15/PWMH0, x PE16/PWMH1/SCK3, x PE17/PWML2, x PE18/PWML0/NCS6, x PE19/PWML4, x PE20/PWMH4/MCCDB, x PE21/PWML5, x PE22/PWMH5/MCDB0, x PE23/PWML6, x PE24/PWMH6/MCDB1, x PE25/PWML7, x PE26/PWMH7/MCDB2, x PE27/NCS7/MCDB3, x PE28/SPI1_MISO, x PE29/SPI1_MOSI, x PE30/SPI1_SPCK, x PE31/SPI1_NPCS0
part F pins: x PF0/SPI1_NPCS1, x PF1/SPI1_NPCS2, x PF2/SPI1_NPCS3, x PF3/PWMH3, x PF4/CTS3, x PF5/RTS3
part G pins: 10 VDDCORE, 11 VDDIO, 12 GND, 22 GNDPLL, 23 VDDPLL, 24 XOUT, 25 XIN, 26 DHSDP, 27 DHSDM, 28 VBUS, 29 VBG, 30 VDDUTMI, 31 DFSDP, 32 DFSDM, 33 GNDUTMI, 34 VDDCORE, 35 JTAGSEL, 36 XIN32, 37 XOUT32, 38 TST, 39 VDDBU, 40 FWUP, 41 GND, 42 VDDOUT, 43 VDDIN, 44 GND, 45 VDDCORE, 47 NRST, 51 VDDANA, 52 GNDANA, 53 ADVREF, 71 VDDCORE, 72 VDDIO, 73 GND, 89 VDDCORE, 90 VDDIO, 91 GND

## Audio-3.5
designator AD?, comment Audio
footprint AUDIO-V000
footprint AUDIO-V001
footprint AUDIO-V002
footprint AUDIO-AV-V002
pins: 1 GND, 2 L, 2 L, 3 R, 3 R

## Audio-AV
designator AD?, comment Audio
footprint AUDIO-AV-V003
pins: 1 GND, 2 L1, 3 R1, 4 L2, 5 R2, 6 L3, 7 R3

## BC107/108
designator Q?, comment BC107
NPN C --> E
footprint TO-18-V0
footprint TO-18-V1
pins: 1 E, 2 B, 3 C

## BC547
designator Q?
NPN C --> E
footprint TO-92 (V001)
pins: 1 E, 2 B, 3 C

## BC846
designator B?
NPN C --> E
footprint SOT416-V0
footprint SC75-V0
footprint SC70-V0
footprint SOT323-V0
footprint SOT23-V0
footprint TO236AB-V0
pins: 1 B, 2 E, 3 C

## Bluetooth
designator BL, comment HC05  (value not drawn)
HC 05/06
pins: 1 STATE, 2 RXD, 3 TXD, 4 GND, 5 VCC, 6 EN
text: BLUETOOTH

## Bridge
designator B?
footprint Bridge-RS507 (5A)
footprint Bridge-KBU1010 (1000V-10A)
footprint Bridge-KBL608 (800V-6A)
footprint Bridge-KBP307 (Footprint not found)
pins: 1 V+, 2 AC, 3 AC, 4 V-

## Buck LM317
designator LM?, comment LM317
1.5 A IN(28V) OUT(1.27-37V)
footprint TO223
footprint TO220-A
footprint TO220-B
footprint TO220-C
footprint D2PAK
pins: 1, 2 Vout, 3 Vin
text: ADJ

## Buck LM1117 V0
designator LM?, comment LM317
1A IN(20V) OUT(1.25-13.8V)
footprint TO220-A
footprint TO220-B
footprint TO220-C
footprint TO252-2.55
footprint TO263-3
footprint SOT223-4
pins: 1, 2 Vout, 3 Vin
text: ADJ

## Buck LM1117 V1
designator LM?, comment LM317
1A IN(20V) OUT(1.25-13.8V)
footprint WSON8-Package
pins: 1 ADJ, 2 Vin, 3 Vin, 4 Vin, 5 Vout, 6 Vout, 7 Vout, 8 NC

## Buck LM2576
designator LM?, comment LM2576
3A-IN(40V) OUT(1.23-37V)
footprint DIP5-V0-Package
footprint TO263-5
pins: 1 VIN (power), 2 OUT (power), 3 GND (power), 4 FB (in), 5 ~{ON}/OFF (in)
text: ON/OFF

## Buck LM2596
designator LM?, comment LM2596
3A-IN(40V) OUT(1.23-37V)
footprint DIP5-V0-Package
footprint TO263-5
pins: 1 VIN (power), 2 OUT (power), 3 GND (power), 4 FB (in), 5 ~{ON}/OFF (in)
text: ON/OFF

## Buck XL7015
designator LM?, comment XL7015
0.8A-IN(80V) OUT(1.25-20V); IC on ap 5v k DC duoc: 5V/3A
footprint TO252-5L
pins: 1 VIN (power), 2 SW (power), 3 GND (power), 4 FB (in), 5 EN (in)

## Button
designator BT?, comment SW  (value not drawn)
footprint Button-4-SMD
footprint Button-2-SMD
footprint Button-4-12x12
footprint Button-6-12x12
footprint Button-2-6x6
footprint Button-2-12x12
footprint Button-4-6x6
footprint Button-4-T
pins: 1, 2

## C1815
designator Q?
NPN C-->E
footprint C2383 (Footprint not found)
footprint C828 (Footprint not found)
footprint TO-92
pins: 1 E, 2 C, 3 B

## Cap
designator C?, comment 33pF
value4: 1uF-105; value: 22pF; value3: 0.1uF-100nF-104; value5: 10uF-106; value2: 0.01uF-103; value1: 33pF
footprint CAP
footprint CAP-V
footprint CAP-0603
footprint CAP-0805 (A001)
footprint CAP-1206 (A001)
pins: 1, 2

## Cap Pol0
designator C?, comment 10UF
100UF: 16/25V; 470UF: 16V; 47UF: 50V
footprint Cap 2.54
footprint 47uF/50V (Footprint not found)
footprint 100uF/16V (Footprint not found)
footprint 100uF/25V (Footprint not found)
footprint 470uF/16V (Footprint not found)
footprint 10UF/25V (Footprint not found)
footprint 220uF/35V (Footprint not found)
footprint 22uF/50V (Footprint not found)
pins: 1, 2

## Cap Pol1
designator C?, comment 3300UF/16V
470UF: 35V; 3300UF: 16V; 1000UF: 25V
footprint CAP 5.08 (Footprint not found)
footprint 1000uF/25V (Footprint not found)
footprint 3300uF/16V (Footprint not found)
footprint 470uF/35V (Footprint not found)
footprint 330uF/50V (Footprint not found)
footprint 33uF/100V (Footprint not found)
pins: 1, 2

## Cap Pol2
designator C?, comment 3300UF/25V
47UF: 400V; 3300UF: 25V
footprint CAP 7.62 (Footprint not found)
footprint 47uF/400V (Footprint not found)
footprint 3300uF/25V (Footprint not found)
footprint 470uF/100V (Footprint not found)
pins: 1, 2

## Cap Pol3
designator C?, comment 4700uF/50V
footprint CAP 10.16
footprint 4700uF/50V (Footprint not found)
pins: 1, 2

## CAP-104D-5.08mm
designator C?, comment 104
footprint CAP-104D-5.08mm
footprint 104-100V (Footprint not found)
footprint 393J-100V (Footprint not found)
pins: 1, 2

## CAP-104D-10.16mm
designator C?, comment 104
footprint CAP-104D-10mm
footprint 104V-275V (Footprint not found)
footprint 103V-275V (Footprint not found)
footprint 473V-275V (Footprint not found)
pins: 1, 2

## CAP-104D-10mm
designator C?, comment 104
footprint CAP-104D-10mm
footprint 104V-275V (Footprint not found)
footprint 103V-275V (Footprint not found)
footprint 473V-275V (Footprint not found)
pins: 1, 2

## CAP-104D-15mm
designator C?, comment 104
footprint CAP-104D-15mm
footprint 105-400V (Footprint not found)
footprint 104-630V (Footprint not found)
pins: 1, 2

## CAP-104D-22.5mm
designator C?, comment 104
footprint CAP-104D-22.5mm
footprint 155J-400V (Footprint not found)
pins: 1, 2

## CAP-104D-27.5mm
designator C?, comment 104
footprint CAP-104D-27.5mm
pins: 1, 2

## Cap-SMD-D
designator C?
footprint Cap-SMD-ALU-D (7x6.6mm)
pins: 1, 2

## Cap-SMD-E
designator C?
footprint Cap-SMD-ALU-E (9x8,2mm)
pins: 1, 2

## Cap-SMD-F
designator C?
footprint Cap-SMD-ALU-F (10x8,5mm)
pins: 1, 2

## CD 4017
designator IC?
Decade Counter/Divider with 10 Decoded Outputs; Designed by: VanDungEvn; Value: CD4017
footprint DIP16-V0-Package
pins: 1 5 (out), 2 1 (out), 3 0 (out), 4 2 (out), 5 6 (out), 6 7 (out), 7 3 (out), 8 GND (power), 9 8 (out), 10 4 (out), 11 9 (out), 12 CO (out), 13 E (in), 14 CLK (in), 15 MR (in), 16 VDD (power)

## CH340 G
designator IC?, comment CH340  (value not drawn)
footprint SOP16-Package-V0
footprint SOP16-Package-V1
pins: 1 GND, 2 TXD, 3 RXD, 4 V3, 5 UD+, 6 UD-, 7 XI, 8 XO, 9 CTS, 10 DSR, 11 RI, 12 DCD, 13 DTR, 14 DTS, 15 RS232, 16 VCC

## Com9
designator LPT?
LPT9
footprint DSB-9T
footprint DSB-9M
footprint DSB-9F
footprint DSB 9F-SM (Com 9 chan SMD,F)
footprint DSB 9M-SM (Com 9 chan SMD,F)
pins: 1, 2, 3, 4, 5, 6, 7, 8, 9

## Com15
designator LPT?
LPT15
footprint DSB-15-M
footprint DSB-15-F

## Com25
designator LPT?
LPT 25; PackageDocument: U; Positions: 25; Gender: Receptacle; Value: LPT 25; Published: 15-Jun-2001; LatestRevisionDate: 17-Jul-2002; LatestRevisionNote: Re-released for DXP Platform.; DatasheetDocument: 19-Mar-1999; PackageReference: 787202; Publisher: Altium Limited; Orientation: Right Angle
footprint DSB-25-F
footprint DSB-25-M
footprint DSB 25F-SM (25 pin, connector LPT)
pins: 1, 2, 3, 4, 5, 6, 7, 8, 9, 10, 11, 12, 13, 14, 15, 16, 17, 18, 19, 20, 21, 22, 23, 24, 25, 26 MH1, 27 MH2

## Crystal
designator Y?, comment 12MHz
footprint XT-V0
footprint XT-V1
footprint XT-V2
footprint XT-V3
footprint XT-V4
footprint XT-V5
pins: 1 OSC1, 2 OSC2, 3, 4

## Diode V0
designator D?, comment 1N4007
1N4007: 3A-1000V; 1N5822: SS34-3A-40V; 1N5819: SS14-1A-40V; FR107: 1A-1000V; FR307: 3A-1000V; 1N5408: 1A-1000V
footprint DIODE-SMDV0
footprint DIODE-SMDV1
footprint DIODE-HOLDV0 (1A)
footprint DIODE-HOLDV1 (1A)
footprint DIODE-HOLDV2 (1A)
footprint DIODE-HOLDV3 (3A)
footprint TO247-F
footprint TO220-F
pins: 1 +, 2 -

## DS1302
designator IC?
Real Timer Serial - 2=>5V
pins: 1 VCC, 2 X1, 3 X2, 4 GND, 5 CE, 6 I/O, 7 SCLK, 8 Vbat

## DS1307
designator IC?
Real Timer Serial - 2=>5V
footprint DIP8-V0-Package
pins: 1 X1, 2 X2, 3 Vbat, 4 GND, 5 SDA, 6 SCL, 7 OUT, 8 VCC

## ESP_01
designator ESP?
footprint ESP_01_DIP
pins: 1 IO3, 2 IO0, 3 IO2, 4 GND, 5 IO1, 6 CH_PD, 7 RST, 8 3.3V
text: U0_Rx; SPI_CS2; U1_Tx; EN; U0_Tx

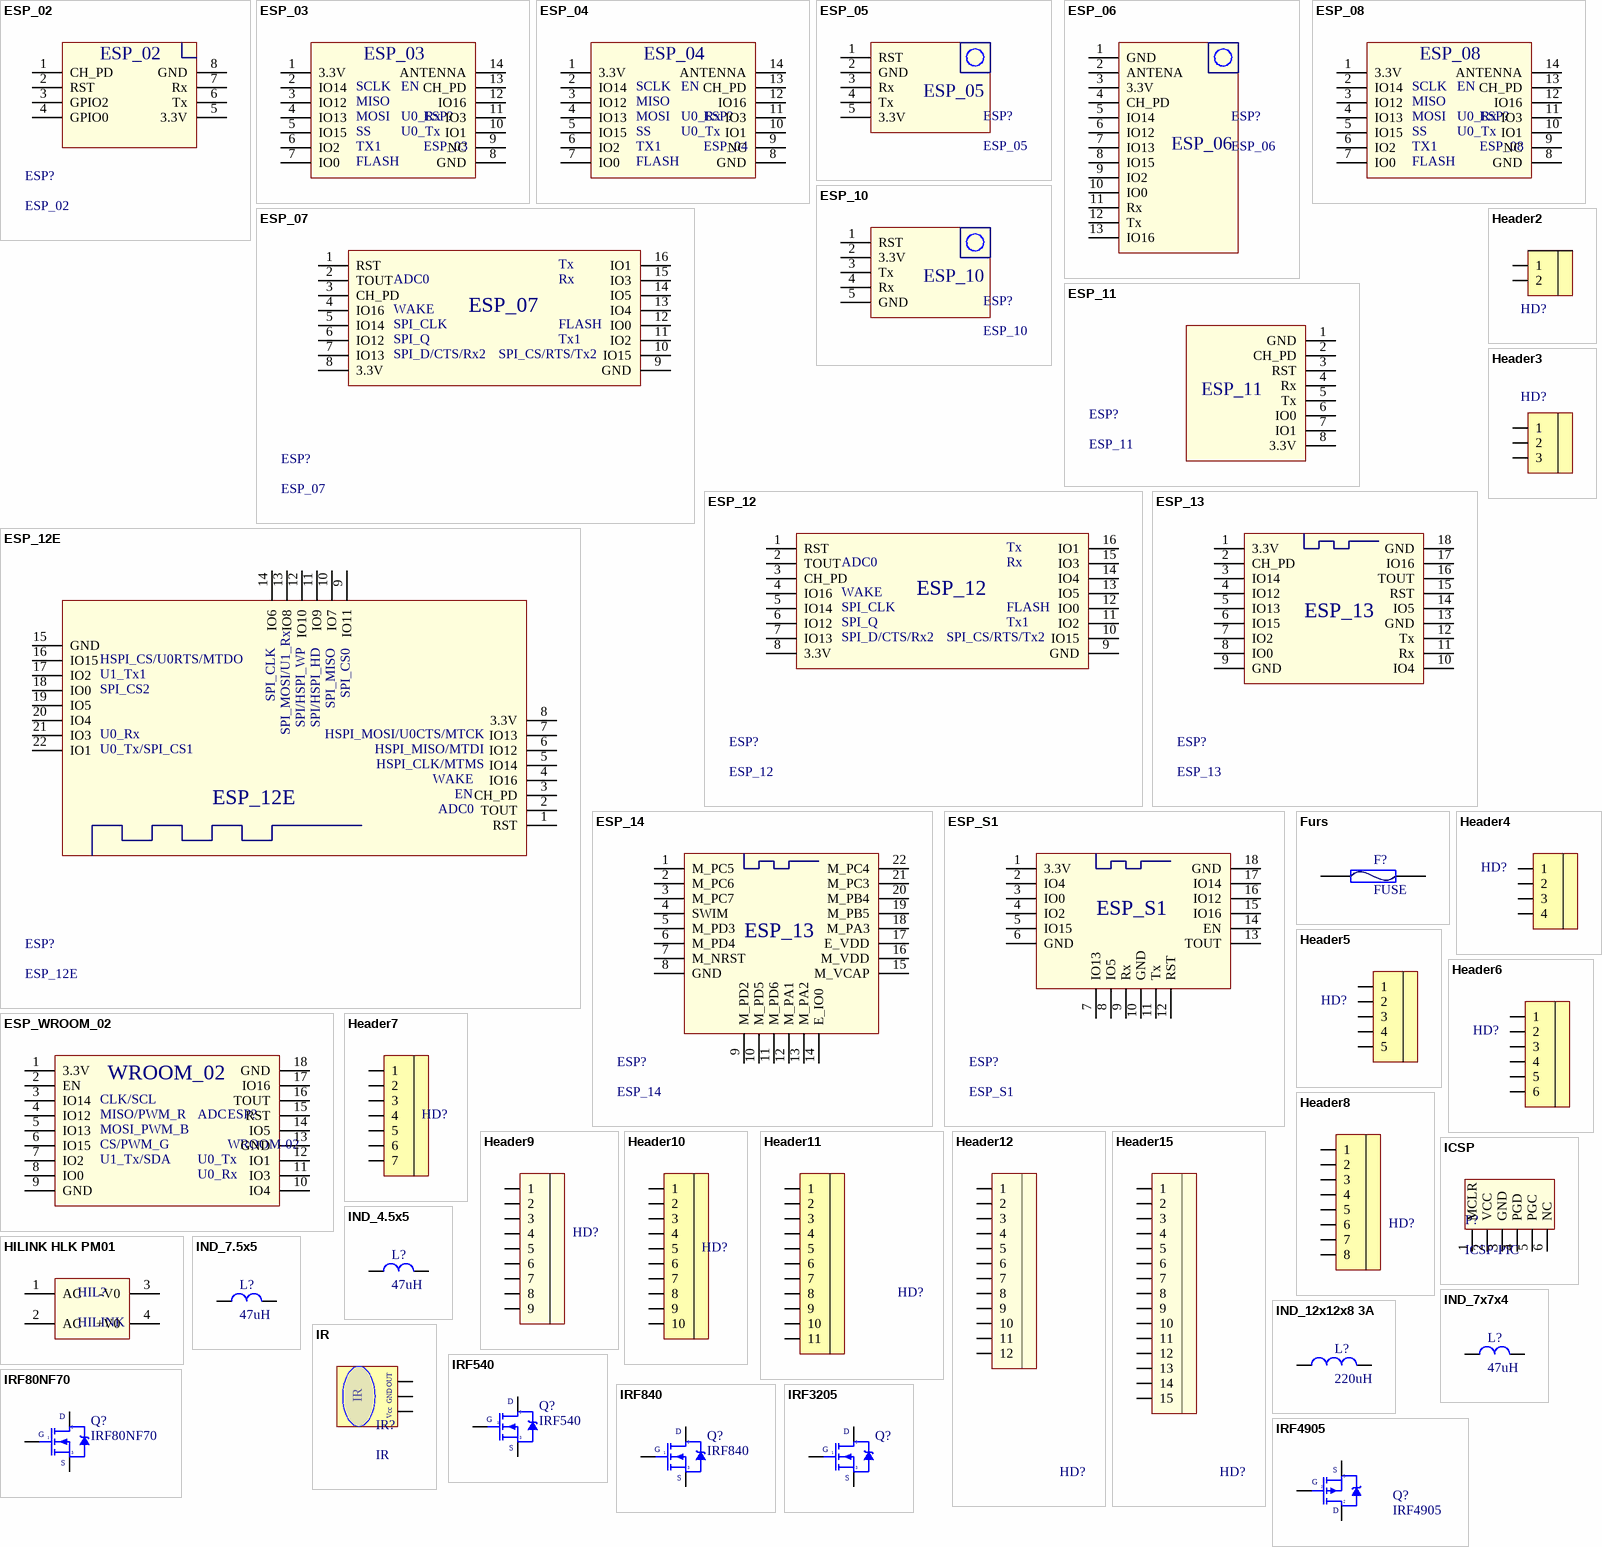
[diagram p4: symbols ESP_02 to IRF4905]

## ESP_02
designator ESP?
footprint ESP_02_DIP
footprint ESP_02_SMD
pins: 1 CH_PD, 2 RST, 3 GPIO2, 4 GPIO0, 5 3.3V, 6 Tx, 7 Rx, 8 GND

## ESP_03
designator ESP?
pins: 1 3.3V, 2 IO14, 3 IO12, 4 IO13, 5 IO15, 6 IO2, 7 IO0, 8 GND, 9 NC, 10 IO1, 11 IO3, 12 IO16, 13 CH_PD, 14 ANTENNA
text: SCLK; EN; MISO; MOSI; U0_Rx; SS; U0_Tx; TX1; FLASH

## ESP_04
designator ESP?
footprint ESP_04_SMD
pins: 1 3.3V, 2 IO14, 3 IO12, 4 IO13, 5 IO15, 6 IO2, 7 IO0, 8 GND, 9 NC, 10 IO1, 11 IO3, 12 IO16, 13 CH_PD, 14 ANTENNA
text: SCLK; EN; MISO; MOSI; U0_Rx; SS; U0_Tx; TX1; FLASH

## ESP_05
designator ESP?
footprint ESP_05_DIP
pins: 1 RST, 2 GND, 3 Rx, 4 Tx, 5 3.3V

## ESP_06
designator ESP?
footprint ESP_06_SMD
pins: 1 GND, 2 ANTENA, 3 3.3V, 4 CH_PD, 5 IO14, 6 IO12, 7 IO13, 8 IO15, 9 IO2, 10 IO0, 11 Rx, 12 Tx, 13 IO16

## ESP_07
designator ESP?
pins: 1 RST, 2 TOUT, 3 CH_PD, 4 IO16, 5 IO14, 6 IO12, 7 IO13, 8 3.3V, 9 GND, 10 IO15, 11 IO2, 12 IO0, 13 IO4, 14 IO5, 15 IO3, 16 IO1
text: Tx; ADC0; Rx; WAKE; SPI_CLK; FLASH; SPI_Q; Tx1; SPI_D/CTS/Rx2; SPI_CS/RTS/Tx2

## ESP_08
designator ESP?
footprint ESP_08_SMD
pins: 1 3.3V, 2 IO14, 3 IO12, 4 IO13, 5 IO15, 6 IO2, 7 IO0, 8 GND, 9 NC, 10 IO1, 11 IO3, 12 IO16, 13 CH_PD, 14 ANTENNA
text: SCLK; EN; MISO; MOSI; U0_Rx; SS; U0_Tx; TX1; FLASH

## ESP_10
designator ESP?
footprint ESP_10_SMD
pins: 1 RST, 2 3.3V, 3 Tx, 4 Rx, 5 GND

## ESP_11
designator ESP?
footprint ESP_11_DIP
pins: 1 GND, 2 CH_PD, 3 RST, 4 Rx, 5 Tx, 6 IO0, 7 IO1, 8 3.3V

## ESP_12
designator ESP?
footprint ESP_12_SMD
pins: 1 RST, 2 TOUT, 3 CH_PD, 4 IO16, 5 IO14, 6 IO12, 7 IO13, 8 3.3V, 9 GND, 10 IO15, 11 IO2, 12 IO0, 13 IO5, 14 IO4, 15 IO3, 16 IO1
text: Tx; ADC0; Rx; WAKE; SPI_CLK; FLASH; SPI_Q; Tx1; SPI_D/CTS/Rx2; SPI_CS/RTS/Tx2

## ESP_12E
designator ESP?
pins: 1 RST, 2 TOUT, 3 CH_PD, 4 IO16, 5 IO14, 6 IO12, 7 IO13, 8 3.3V, 9 IO11, 10 IO7, 11 IO9, 12 IO10, 13 IO8, 14 IO6, 15 GND, 16 IO15, 17 IO2, 18 IO0, 19 IO5, 20 IO4, 21 IO3, 22 IO1
text: HSPI_CS/U0RTS/MTDO; U1_Tx1; SPI_CS2; SPI_CS0; SPI_CLK; SPI_MISO; SPI/HSPI_WP; SPI/HSPI_HD; SPI_MOSI/U1_Rx; U0_Rx; HSPI_MOSI/U0CTS/MTCK; U0_Tx/SPI_CS1; HSPI_MISO/MTDI; HSPI_CLK/MTMS; WAKE; EN; ADC0

## ESP_13
designator ESP?
pins: 1 3.3V, 2 CH_PD, 3 IO14, 4 IO12, 5 IO13, 6 IO15, 7 IO2, 8 IO0, 9 GND, 10 IO4, 11 Rx, 12 Tx, 13 GND, 14 IO5, 15 RST, 16 TOUT, 17 IO16, 18 GND

## ESP_14
designator ESP?
pins: 1 M_PC5, 2 M_PC6, 3 M_PC7, 4 SWIM, 5 M_PD3, 6 M_PD4, 7 M_NRST, 8 GND, 9 M_PD2, 10 M_PD5, 11 M_PD6, 12 M_PA1, 13 M_PA2, 14 E_IO0, 15 M_VCAP, 16 M_VDD, 17 E_VDD, 18 M_PA3, 19 M_PB5, 20 M_PB4, 21 M_PC3, 22 M_PC4
text: ESP_13

## ESP_S1
designator ESP?
pins: 1 3.3V, 2 IO4, 3 IO0, 4 IO2, 5 IO15, 6 GND, 7 IO13, 8 IO5, 9 Rx, 10 GND, 11 Tx, 12 RST, 13 TOUT, 14 EN, 15 IO16, 16 IO12, 17 IO14, 18 GND

## ESP_WROOM_02
designator ESP?, comment WROOM-02
footprint Flash Boot Mode: IO15-GND, IO2+IO0-3.3V (Footprint not found)
footprint UART Download Mode: IO15+IO0-GND, IO2-3.3V (Footprint not found)
pins: 1 3.3V, 2 EN, 3 IO14, 4 IO12, 5 IO13, 6 IO15, 7 IO2, 8 IO0, 9 GND, 10 IO4, 11 IO3, 12 IO1, 13 GND, 14 IO5, 15 RST, 16 TOUT, 17 IO16, 18 GND
text: WROOM_02; CLK/SCL; MISO/PWM_R; ADC; MOSI_PWM_B; CS/PWM_G; U1_Tx/SDA; U0_Tx; U0_Rx

## Furs
designator F?, comment FUSE
footprint FUSE-DIP-V0 (3x10mm)
footprint FUSE-DIP-V1 (6x20mm)
footprint FUSE-DIP-V3 (5x20mm-FS01)
footprint FUSE-DIP-V4 (5x20mm-FS02)
footprint FUSE-DIP-V5 (5x20mm-BLX-A)
footprint FUSE-DIP-V7
footprint FUSE-DIP-V10 (5X20mm)
footprint FUSE-DIP-V11 (5x30mm)
footprint FUSE-SMD-V0
pins: 1, 2

## Header2
designator HD?
footprint DG2
footprint CON2
footprint HB9500-2P
footprint HT5.08-2L
footprint JUMP-2X1
footprint KF7.62-2P
footprint KF2510-2T
footprint KF25
footprint EDG5.08-2P
pins: 1, 2

## Header3
designator HD?
footprint DG3
footprint CON3
footprint HT5.08-3L
footprint JUMP-3x1
footprint KF2510-3T
footprint KF7.62-3P
footprint EDG5.08-3P
pins: 1, 2, 3

## Header4
designator HD?
footprint DG4
footprint CON4
footprint HT5.08-4L
footprint JUMP-4x1
footprint KF7.62-4P
footprint KF2510-4T
footprint EDG5.08-4P
pins: 1, 2, 3, 4

## Header5
designator HD?
footprint DG5
footprint CON5
footprint HT5.08-5L
footprint JUMP-5x1
footprint KF2510-5T
footprint EDG5.08-5P
pins: 1, 2, 3, 4, 5

## Header6
designator HD?
footprint DG6
footprint CON6
footprint HT5.08-6L
footprint JUMP-6x1
footprint KF2510-6T
footprint EDG5.08-6P
pins: 1, 2, 3, 4, 5, 6

## Header7
designator HD?
footprint DG7
footprint CON7
footprint HT5.08-7L
footprint JUMP-7x1
pins: 1, 2, 3, 4, 5, 6, 7

## Header8
designator HD?
footprint DG8
footprint CON8
footprint HT5.08-8L
footprint JUMP-8x1
footprint KF2510-8T
footprint EDG5.08-8P
pins: 1, 2, 3, 4, 5, 6, 7, 8

## Header9
designator HD?
footprint DG9
footprint CON9
footprint HT5.08-9L
footprint JUMP-9x1
pins: 1, 2, 3, 4, 5, 6, 7, 8, 9

## Header10
designator HD?
footprint DG10
footprint CON10
footprint HB9500-10P
footprint HT5.08-10L
footprint JUMP-10x1
footprint KF2510-10T
pins: 1, 2, 3, 4, 5, 6, 7, 8, 9, 10

## Header11
designator HD?
footprint CON11
pins: 1, 2, 3, 4, 5, 6, 7, 8, 9, 10, 11

## Header12
designator HD?  (value not drawn)
footprint DG12
footprint CON12
footprint JUMP-12x1
pins: 1, 2, 3, 4, 5, 6, 7, 8, 9, 10, 11, 12

## Header15
designator HD?  (value not drawn)
footprint JUMP-12x1
pins: 1, 2, 3, 4, 5, 6, 7, 8, 9, 10, 11, 12, 13, 14, 15

## HILINK HLK PM01
designator HIL?, comment HILINK
footprint HILINK HLK PM01
pins: 1 AC, 2 AC, 3 -V0, 4 +V0

## ICSP
designator P?, comment ICSP-PIC
pins: 1 MCLR, 2 VCC, 3 GND, 4 PGD, 5 PGC, 6 NC

## IND_4.5x5
designator L?, comment 47uH
footprint 4.7uH (Footprint not found)
footprint 22uH (Footprint not found)
footprint 100uH (Footprint not found)
footprint 47uH (Footprint not found)
footprint 33uH (Footprint not found)
footprint CD54 4.5x5
pins: 1, 2

## IND_7.5x5
designator L?, comment 47uH
footprint CD75 7.5x5
footprint 68uH (Footprint not found)
footprint 33uH (Footprint not found)
footprint 10uH (Footprint not found)
footprint 100uH (Footprint not found)
pins: 1, 2

## IND_7x7x4
designator L?, comment 47uH
footprint 47uH (Footprint not found)
footprint 100uH (Footprint not found)
footprint CD74 7x7x4
pins: 1, 2

## IND_12x12x8 3A
designator L?, comment 220uH
footprint CD 127R 12x12x8 (12x12x8)
footprint 47uH (Footprint not found)
footprint 22uH (Footprint not found)
footprint 68uH (Footprint not found)
footprint 33uH (Footprint not found)
footprint 330uH (Footprint not found)
footprint 220uH (Footprint not found)
footprint 100uH (Footprint not found)
pins: 1, 2

## IR
designator IR?
footprint IR-V0
footprint IR-V1
pins: 1 OUT, 2 GND, 3 Vcc

## IRF80NF70
designator Q?
MOSFET N-68V-98A; 500V/8A: IRF 840
footprint TO220-A
footprint TO220-B
footprint TO220-C
pins: 1 G, 2 D, 3 S

## IRF540
designator Q?
MOSFET N-100V-20A; 500V/8A: IRF 840
footprint TO220-AB-A
pins: 1 G, 2 D, 3 S

## IRF840
designator Q?
MOSFET N-500V-5.1A; 500V/8A: IRF 840
footprint TO220-AB-A
pins: 1 G, 2 D, 3 S

## IRF3205
designator Q?  (value not drawn)
MOSFET N-55V-110A; 500V/8A: IRF 840
footprint TO220-AB-A
footprint TO220-B
footprint TO220-C
pins: 1 G, 2 D, 3 S

## IRF4905
designator Q?
MOSFET P--55V--74A; Note: Pin 2 is electrically connected to pin 4.; Published: 8-Jun-2000; LatestRevisionDate: 17-Jul-2002; LatestRevisionNote: Re-released for DXP Platform.; DatasheetVersion: PD-9.421C; PackageVersion: Feb-1997; PackageReference: TO-220AB; Publisher: Altium Limited; PackageDescription: TO, Thru-Hole, Vertical, Heatsink Mounted; 3 In-Line Leads; Pitch 2.54 mm; ComponentLink1Description: Manufacturer Link; ComponentLink1URL: http://www.irf.com/; ComponentLink2Description: Datasheet; ComponentLink2URL: http://www.irf.com/product-info/datasheets/data/irf9540.pdf
footprint TO220-AB-A
pins: 1 G, 2 D, 3 S

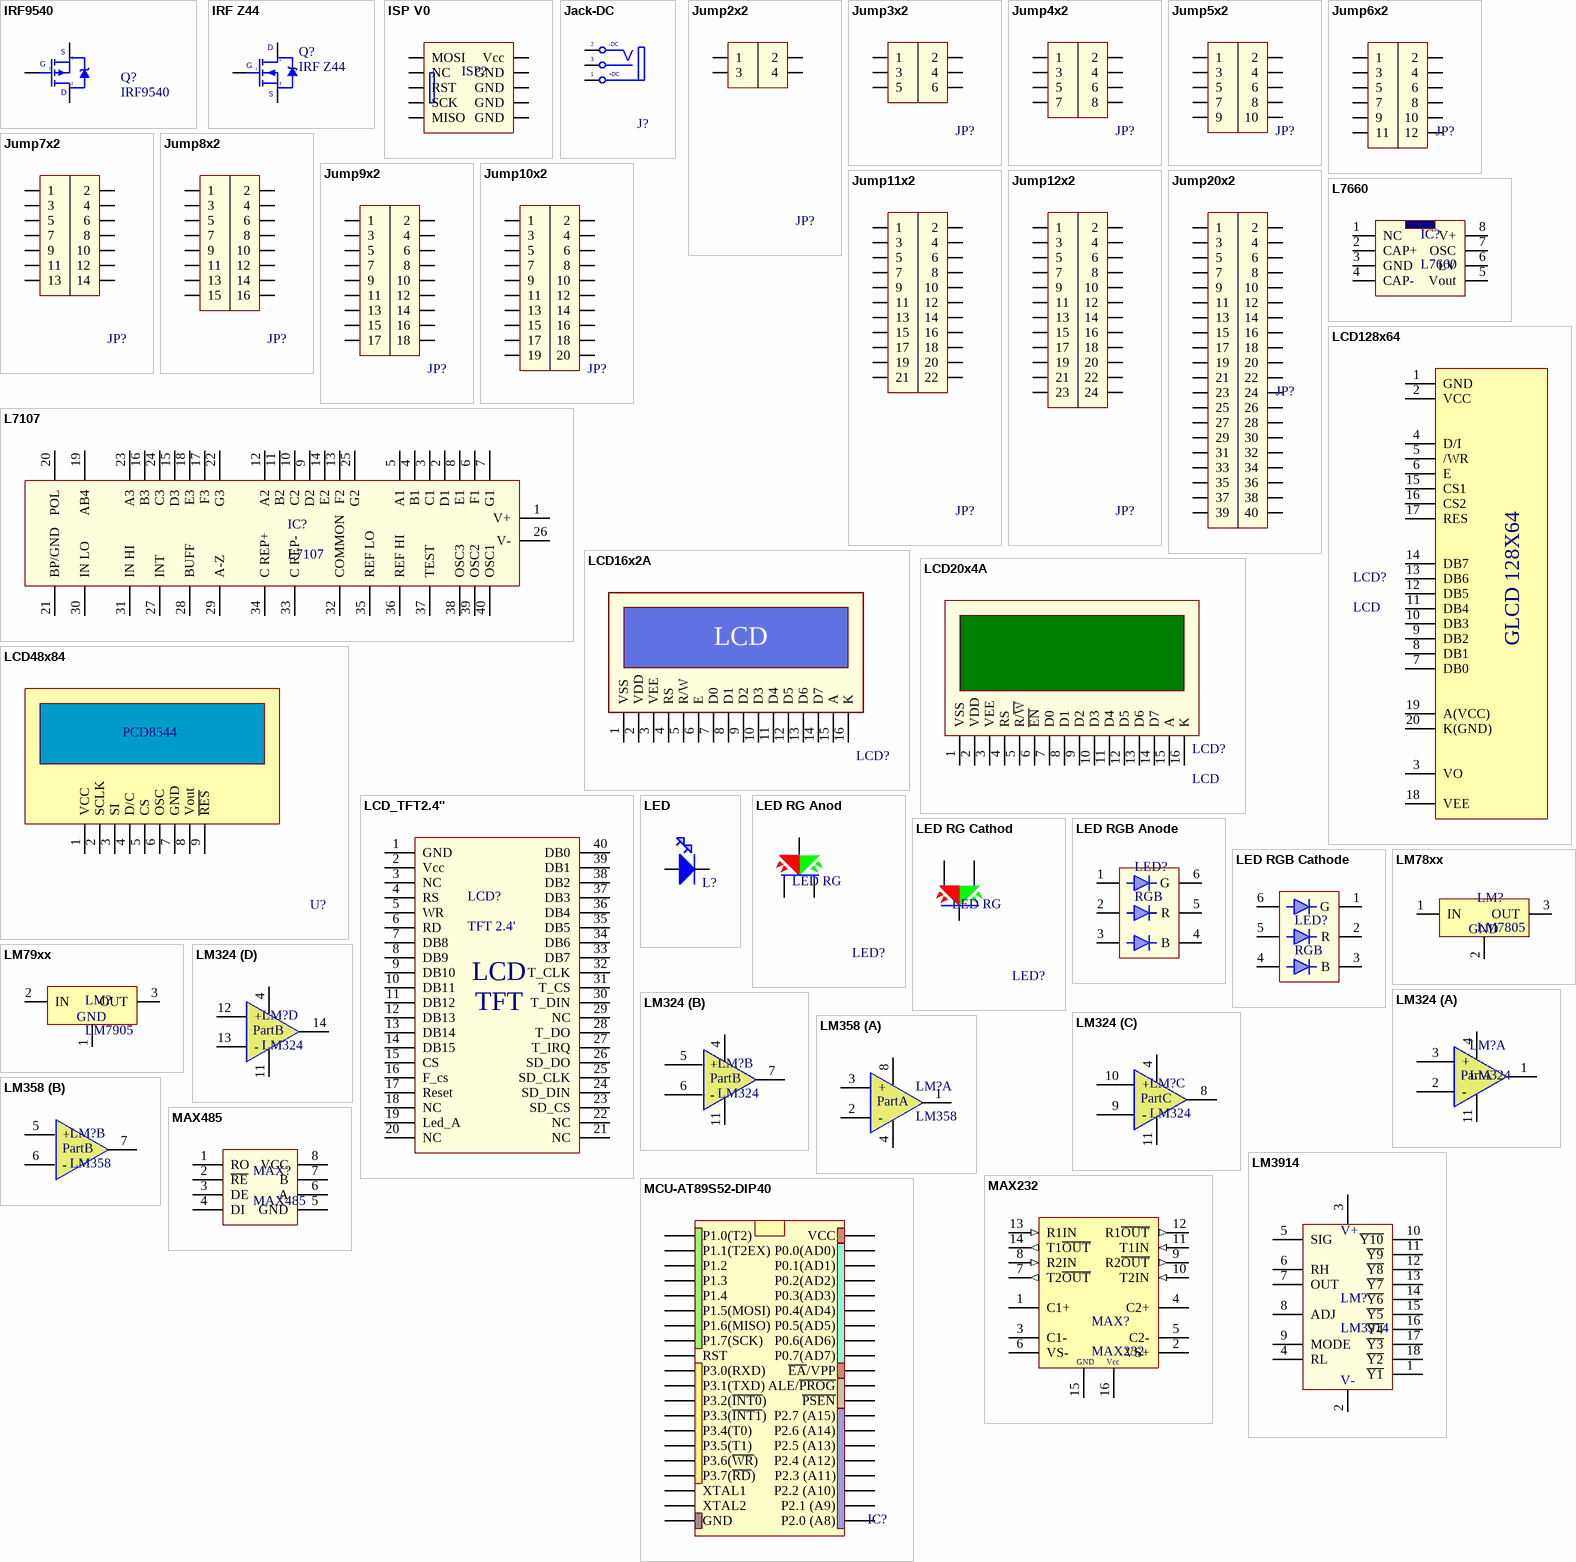
[diagram p5: symbols IRF9540 to MCU-AT89S52-DIP40]

## IRF9540
designator Q?
MOSFET P--100V--23A; Note: Pin 2 is electrically connected to pin 4.; Published: 8-Jun-2000; LatestRevisionDate: 17-Jul-2002; LatestRevisionNote: Re-released for DXP Platform.; DatasheetVersion: PD-9.421C; PackageVersion: Feb-1997; PackageReference: TO-220AB; Publisher: Altium Limited; PackageDescription: TO, Thru-Hole, Vertical, Heatsink Mounted; 3 In-Line Leads; Pitch 2.54 mm; ComponentLink1Description: Manufacturer Link; ComponentLink1URL: http://www.irf.com/; ComponentLink2Description: Datasheet; ComponentLink2URL: http://www.irf.com/product-info/datasheets/data/irf9540.pdf
footprint TO220-AB-A
pins: 1 G, 2 D, 3 S

## IRF Z44
designator Q?
MOSFET N-60V-36A; 500V/8A: IRF 840
footprint TO220-AB-A
pins: 1 G, 2 D, 3 S

## ISP V0
designator ISP?  (value not drawn)
footprint IDE5x2-V0
footprint IDE5x2-V1
pins: 1 MOSI, 2 Vcc, 3 NC, 4 GND, 5 RST, 6 GND, 7 SCK, 8 GND, 9 MISO, 10 GND

## Jack-DC
designator J?, comment DC 5.5  (value not drawn)
footprint JACK-3.5-DC
footprint JACK-5.5-DC
pins: 1 T "Tip", 2 TN "Tip Normal (Break Contact)", 3 S (power) "Sleeve (Ground)"
text: -DC; +DC

## Jump2x2
designator JP?  (value not drawn)
footprint JUMP-2x2
pins: 1, 2, 3, 4

## Jump3x2
designator JP?  (value not drawn)
footprint JUMP-3x2
pins: 1, 2, 3, 4, 5, 6

## Jump4x2
designator JP?  (value not drawn)
footprint JUMP-4x2
pins: 1, 2, 3, 4, 5, 6, 7, 8

## Jump5x2
designator JP?  (value not drawn)
footprint JUMP-5x2
footprint IDE5x2-V0
footprint IDE5x2-V1
pins: 1, 2, 3, 4, 5, 6, 7, 8, 9, 10

## Jump6x2
designator JP?  (value not drawn)
footprint JUMP-6x2
pins: 1, 2, 3, 4, 5, 6, 7, 8, 9, 10, 11, 12

## Jump7x2
designator JP?  (value not drawn)
footprint JUMP-7x2
pins: 1, 2, 3, 4, 5, 6, 7, 8, 9, 10, 11, 12, 13, 14

## Jump8x2
designator JP?  (value not drawn)
footprint JUMP-8x2
footprint IDE8x2-V0
pins: 1, 2, 3, 4, 5, 6, 7, 8, 9, 10, 11, 12, 13, 14, 15, 16

## Jump9x2
designator JP?  (value not drawn)
footprint JUMP-9x2
pins: 1, 2, 3, 4, 5, 6, 7, 8, 9, 10, 11, 12, 13, 14, 15, 16, 17, 18

## Jump10x2
designator JP?  (value not drawn)
footprint JUMP-10x2
pins: 1, 2, 3, 4, 5, 6, 7, 8, 9, 10, 11, 12, 13, 14, 15, 16, 17, 18, 19, 20

## Jump11x2
designator JP?  (value not drawn)
pins: 1, 2, 3, 4, 5, 6, 7, 8, 9, 10, 11, 12, 13, 14, 15, 16, 17, 18, 19, 20, 21, 22

## Jump12x2
designator JP?  (value not drawn)
pins: 1, 2, 3, 4, 5, 6, 7, 8, 9, 10, 11, 12, 13, 14, 15, 16, 17, 18, 19, 20, 21, 22, 23, 24

## Jump20x2
designator JP?  (value not drawn)
footprint JUMP-20x2
pins: 1, 2, 3, 4, 5, 6, 7, 8, 9, 10, 11, 12, 13, 14, 15, 16, 17, 18, 19, 20, 21, 22, 23, 24, 25, 26, 27, 28, 29, 30, 31, 32, 33, 34, 35, 36, 37, 38, 39, 40

## L7107
designator IC?
footprint DIP40-V0-Package
pins: 1 V+, 2 D1, 3 C1, 4 B1, 5 A1, 6 F1, 7 G1, 8 E1, 9 D2, 10 C2, 11 B2, 12 A2, 13 F2, 14 E2, 15 D3, 16 B3, 17 F3, 18 E3, 19 AB4, 20 POL, 21 BP/GND, 22 G3, 23 A3, 24 C3, 25 G2, 26 V-, 27 INT, 28 BUFF, 29 A-Z, 30 IN LO, 31 IN HI, 32 COMMON, 33 C REP-, 34 C REP+, 35 REF LO, 36 REF HI, 37 TEST, 38 OSC3, 39 OSC2, 40 OSC1

## L7660
designator IC?
IC lật điện áp
footprint DIP8-V0-Package
pins: 1 NC, 2 CAP+, 3 GND, 4 CAP-, 5 Vout, 6 LV, 7 OSC, 8 V+

## LCD16x2A
designator LCD?  (value not drawn)
footprint LCD16x2
pins: 1 VSS, 2 VDD, 3 VEE, 4 RS, 5 R/W, 6 E, 7 D0, 8 D1, 9 D2, 10 D3, 11 D4, 12 D5, 13 D6, 14 D7, 15 A, 16 K
text: LCD

## LCD20x4A
designator LCD?, comment LCD
footprint LCD20x4
pins: 1 VSS, 2 VDD, 3 VEE, 4 RS, 5 R/~{W}, 6 ~{EN}, 7 D0, 8 D1, 9 D2, 10 D3, 11 D4, 12 D5, 13 D6, 14 D7, 15 A, 16 K

## LCD48x84
designator U?, comment PCD8544
LCD Graphic 48x84; Value: PCD8544
pins: 1 VCC, 2 SCLK, 3 SI, 4 D/C, 5 CS, 6 OSC, 7 GND, 8 Vout, 9 ~{RES}

## LCD128x64
designator LCD?, comment LCD
LCD Graphic 128x64
footprint LCD128x64 V0
footprint LCD128x64 V1
pins: 1 GND, 2 VCC, 3 VO, 4 D/I, 5 /WR, 6 E, 7 DB0, 8 DB1, 9 DB2, 10 DB3, 11 DB4, 12 DB5, 13 DB6, 14 DB7, 15 CS1, 16 CS2, 17 RES, 18 VEE, 19 A(VCC), 20 K(GND)
text: GLCD 128X64

## LCD_TFT2.4''
designator LCD?, comment TFT 2.4'
240x320
footprint LCDTFT2.4'' V0
pins: 1 GND, 2 Vcc, 3 NC, 4 RS, 5 WR, 6 RD, 7 DB8, 8 DB9, 9 DB10, 10 DB11, 11 DB12, 12 DB13, 13 DB14, 14 DB15, 15 CS, 16 F_cs, 17 Reset, 18 NC, 19 Led_A, 20 NC, 21 NC, 22 NC, 23 SD_CS, 24 SD_DIN, 25 SD_CLK, 26 SD_DO, 27 T_IRQ, 28 T_DO, 29 NC, 30 T_DIN, 31 T_CS, 32 T_CLK, 33 DB7, 34 DB6, 35 DB5, 36 DB4, 37 DB3, 38 DB2, 39 DB1, 40 DB0
text: LCD; TFT

## LED
designator L?
footprint LED-SMD
footprint LED-3MM
footprint LED-5MM
footprint LED-3MM-GREEN
footprint LED-3MM-RED
footprint LED-7SEG-1
footprint LED-7SEG-2
pins: 1 A, 2 K

## LED RG Anod
designator LED?, comment LED RG
Green and Red; Value: LED 3 - 5 ly 2 Colour
footprint LED RG (LED 3 PIN, 5 ly , Two colour)
pins: 1, 2, 3

## LED RG Cathod
designator LED?, comment LED RG
Green and Red; Value: LED 3 - 5 ly 2 Colour
footprint LED RG (LED 3 PIN, 5 ly , Two colour)
pins: 1, 2, 3

## LED RGB Anode
designator LED?, comment RGB
footprint LED 5050
footprint LED RGB
pins: 1, 2, 3, 4 B, 5 R, 6 G

## LED RGB Cathode
designator LED?, comment RGB
footprint LED 5050
footprint LED RGB
pins: 1 G, 2 R, 3 B, 4, 5, 6

## LM78xx
designator LM?, comment LM7805
footprint TO252-2.55
footprint TO220-A
footprint TO220-B
footprint TO220-C
pins: 1 IN, 2, 3 OUT
text: GND

## LM79xx
designator LM?, comment LM7905
footprint TO252-2.55
footprint TO220-A
footprint TO220-B
footprint TO220-C
pins: 1, 2 IN, 3 OUT
text: GND

## LM324
designator LM?
footprint DIP14-V0-Package
part A pins: 1 1OU, 2 -, 3 +, 4 Vcc, 11 GND
part B pins: 4 Vcc, 5 +, 6 -, 7 2OU, 11 GND
part C pins: 4 Vcc, 8 3OU, 9 -, 10 +, 11 GND
part D pins: 4 Vcc, 11 GND, 12 +, 13 -, 14 4OU
part A text: PartA
part B text: PartB
part C text: PartC
part D text: PartB

## LM358
designator LM?
footprint DIP8-V0-Package
part A pins: 1 OU1, 2 -, 3 +, 4, 8
part B pins: 5 +, 6 -, 7 2OU
part A text: PartA
part B text: PartB

## LM3914
designator LM?
LM3915: *
footprint DIP18-V0-Package
pins: 1 ~{Y1}, 2 V-, 3 V+, 4 RL, 5 SIG, 6 RH, 7 OUT, 8 ADJ, 9 MODE, 10 ~{Y10}, 11 ~{Y9}, 12 ~{Y8}, 13 ~{Y7}, 14 ~{Y6}, 15 ~{Y5}, 16 ~{Y4}, 17 ~{Y3}, 18 ~{Y2}

## MAX232
designator MAX?
footprint SO16
footprint DIP16-V0-Package
pins: 1 C1+, 2 VS+ (power), 3 C1-, 4 C2+, 5 C2-, 6 VS- (power), 7 T2~{OUT} (out), 8 R2IN (in), 9 R2~{OUT} (out), 10 T2IN (in), 11 T1IN (in), 12 R1~{OUT} (out), 13 R1IN (in), 14 T1~{OUT} (out), 15 GND (power), 16 VCC (power)
text: Vcc

## MAX485
designator MAX?
footprint SO8 (Footprint not found)
footprint DIP8-V0-Package
pins: 1 RO "Receiver Output", 2 ~{RE} "Receiver Enable Output", 3 DE "Driver Enable Output", 4 DI "Driver Input", 5 GND, 6 A "RI & NoneDO", 7 B "NoneDI", 8 VCC

## MCU-AT89S52-DIP40
designator IC?, comment AT89S52  (value not drawn)
8Kb FLASH
footprint DIP40-V0-Package
pins: 1 P1.0(T2), 2 P1.1(T2EX), 3 P1.2, 4 P1.3, 5 P1.4, 6 P1.5(MOSI), 7 P1.6(MISO), 8 P1.7(SCK), 9 RST, 10 P3.0(RXD), 11 P3.1(TXD), 12 P3.2(~{INT0}), 13 P3.3(~{INT1}), 14 P3.4(T0), 15 P3.5(T1), 16 P3.6(~{WR}), 17 P3.7(~{RD}), 18 XTAL1, 19 XTAL2, 20 GND (power), 21 P2.0 (A8), 22 P2.1 (A9), 23 P2.2 (A10), 24 P2.3 (A11), 25 P2.4 (A12), 26 P2.5 (A13), 27 P2.6 (A14), 28 P2.7 (A15), 29 ~{PSEN}, 30 ALE/~{PROG}, 31 ~{EA}/VPP, 32 P0.7(AD7), 33 P0.6(AD6), 34 P0.5(AD5), 35 P0.4(AD4), 36 P0.3(AD3), 37 P0.2(AD2), 38 P0.1(AD1), 39 P0.0(AD0), 40 VCC (power)

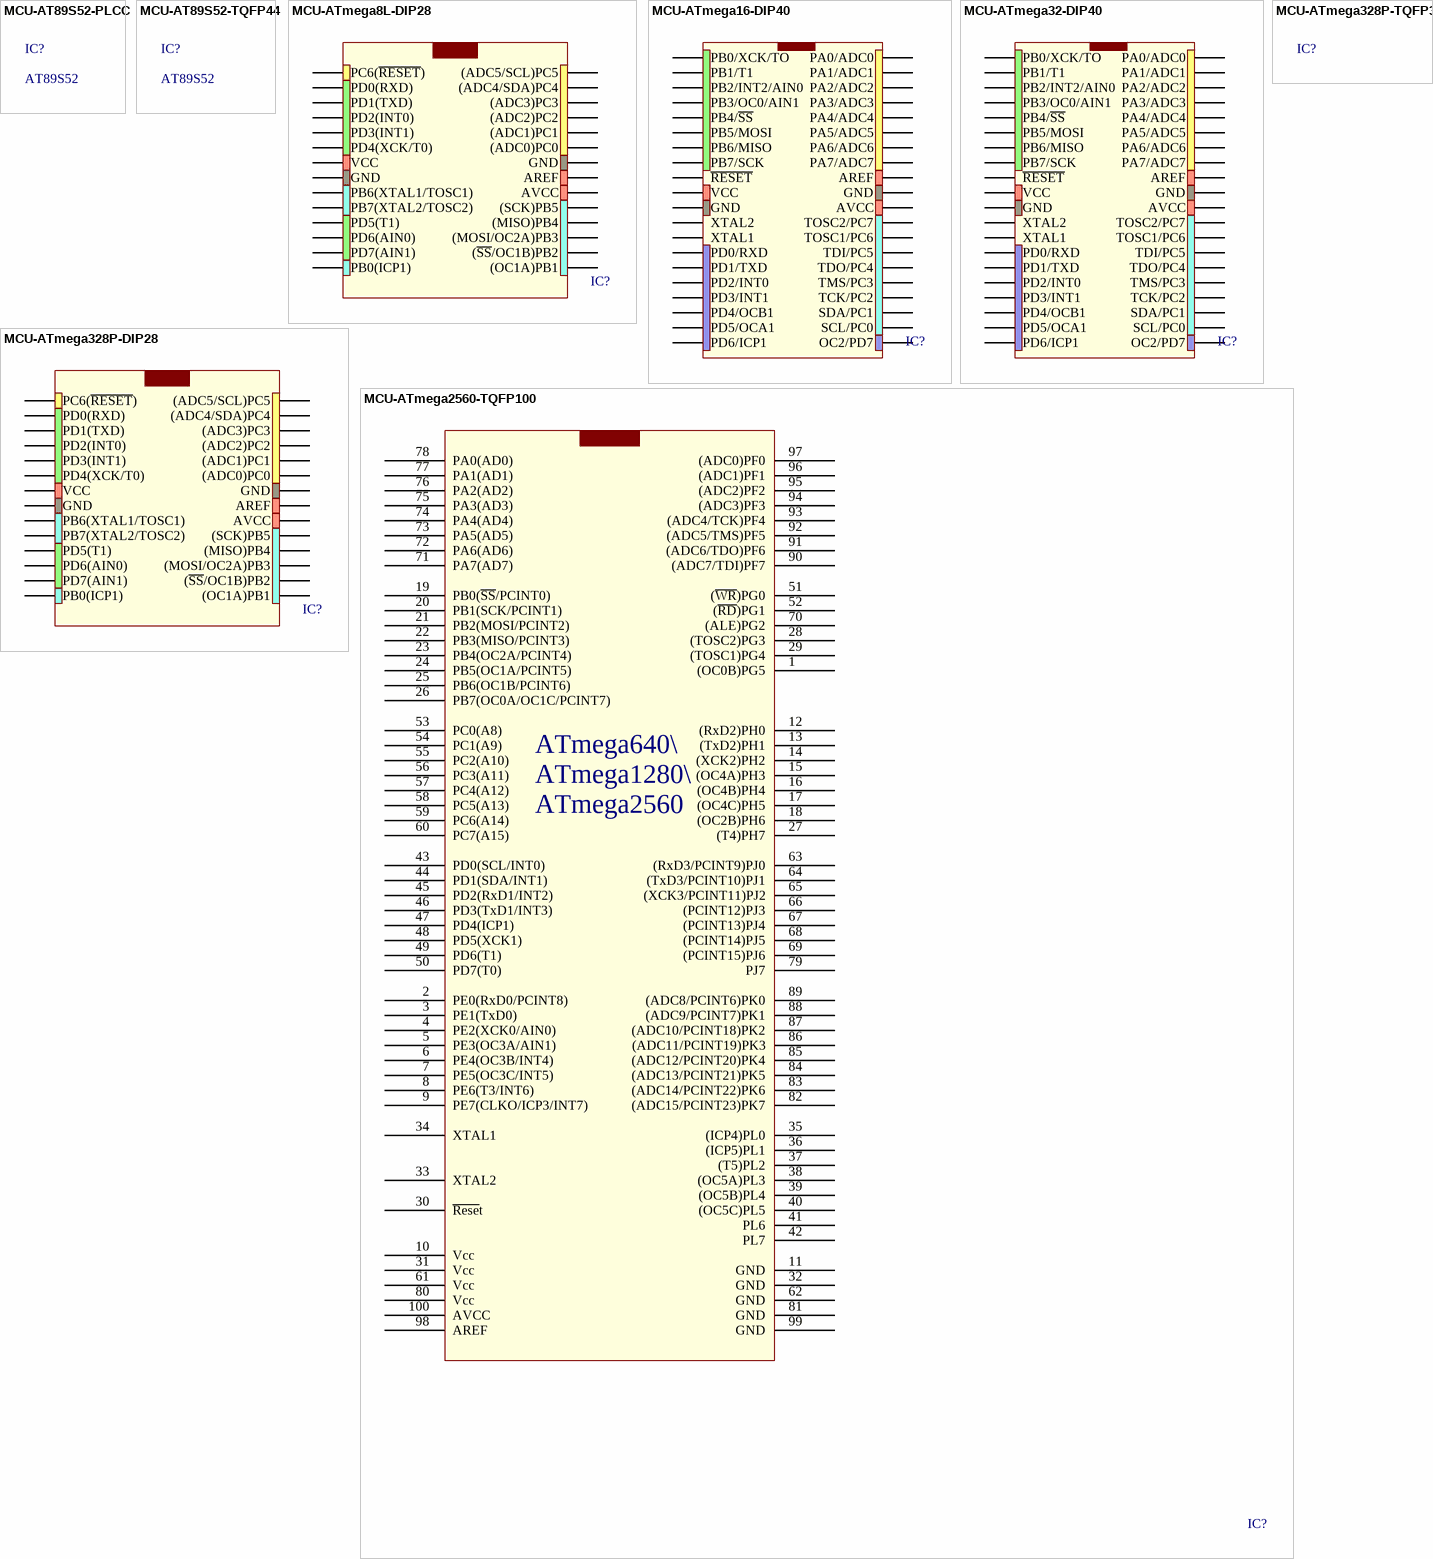
[diagram p6: symbols MCU-AT89S52-PLCC to MCU-ATmega2560-TQFP100]

## MCU-AT89S52-PLCC
designator IC?, comment AT89S52
8Kb FLASH
footprint PLCC44-Package

## MCU-AT89S52-TQFP44
designator IC?, comment AT89S52
8Kb FLASH
footprint TQFP44-Package

## MCU-ATmega8L-DIP28
designator IC?, comment ATmega8  (value not drawn)
8Kb FLASH, 1Kb SRAM, 512b EEPROM
footprint DIP28-V0-Package (10.16mm)
footprint MCU-ATmega8 (Footprint not found)
footprint MCU-ATmega8A (Footprint not found)
pins: 1 PC6(~{RESET}), 2 PD0(RXD), 3 PD1(TXD), 4 PD2(INT0), 5 PD3(INT1), 6 PD4(XCK/T0), 7 VCC, 8 GND, 9 PB6(XTAL1/TOSC1), 10 PB7(XTAL2/TOSC2), 11 PD5(T1), 12 PD6(AIN0), 13 PD7(AIN1), 14 PB0(ICP1), 15 (OC1A)PB1, 16 (~{SS}/OC1B)PB2, 17 (MOSI/OC2A)PB3, 18 (MISO)PB4, 19 (SCK)PB5, 20 AVCC, 21 AREF, 22 GND, 23 (ADC0)PC0, 24 (ADC1)PC1, 25 (ADC2)PC2, 26 (ADC3)PC3, 27 (ADC4/SDA)PC4, 28 (ADC5/SCL)PC5

## MCU-ATmega16-DIP40
designator IC?, comment ATmega16  (value not drawn)
16Kb FLASH, 1Kb SRAM, 512b EEPROM
footprint DIP40-V0-Package
pins: 1 PB0/XCK/TO, 2 PB1/T1, 3 PB2/INT2/AIN0, 4 PB3/OC0/AIN1, 5 PB4/~{SS}, 6 PB5/MOSI, 7 PB6/MISO, 8 PB7/SCK, 9 ~{RESET}, 10 VCC, 11 GND, 12 XTAL2, 13 XTAL1, 14 PD0/RXD, 15 PD1/TXD, 16 PD2/INT0, 17 PD3/INT1, 18 PD4/OCB1, 19 PD5/OCA1, 20 PD6/ICP1, 21 OC2/PD7, 22 SCL/PC0, 23 SDA/PC1, 24 TCK/PC2, 25 TMS/PC3, 26 TDO/PC4, 27 TDI/PC5, 28 TOSC1/PC6, 29 TOSC2/PC7, 30 AVCC, 31 GND, 32 AREF, 33 PA7/ADC7, 34 PA6/ADC6, 35 PA5/ADC5, 36 PA4/ADC4, 37 PA3/ADC3, 38 PA2/ADC2, 39 PA1/ADC1, 40 PA0/ADC0

## MCU-ATmega32-DIP40
designator IC?, comment ATmega32  (value not drawn)
32Kb FLASH, 2Kb SRAM, 1024b EEPROM
footprint DIP40-V0-Package
footprint MCU-DIP-ATmega32L (Footprint not found)
pins: 1 PB0/XCK/TO, 2 PB1/T1, 3 PB2/INT2/AIN0, 4 PB3/OC0/AIN1, 5 PB4/~{SS}, 6 PB5/MOSI, 7 PB6/MISO, 8 PB7/SCK, 9 ~{RESET}, 10 VCC, 11 GND, 12 XTAL2, 13 XTAL1, 14 PD0/RXD, 15 PD1/TXD, 16 PD2/INT0, 17 PD3/INT1, 18 PD4/OCB1, 19 PD5/OCA1, 20 PD6/ICP1, 21 OC2/PD7, 22 SCL/PC0, 23 SDA/PC1, 24 TCK/PC2, 25 TMS/PC3, 26 TDO/PC4, 27 TDI/PC5, 28 TOSC1/PC6, 29 TOSC2/PC7, 30 AVCC, 31 GND, 32 AREF, 33 PA7/ADC7, 34 PA6/ADC6, 35 PA5/ADC5, 36 PA4/ADC4, 37 PA3/ADC3, 38 PA2/ADC2, 39 PA1/ADC1, 40 PA0/ADC0

## MCU-ATmega328P-DIP28
designator IC?, comment ATmega328P  (value not drawn)
footprint DIP28-V0-Package (10.16mm)
footprint MCU-ATmega48PA (Footprint not found)
footprint MCU-ATmega48A (Footprint not found)
footprint MCU-ATmega328P (Footprint not found)
footprint MCU-ATmega88PA (Footprint not found)
footprint MCU-ATmega88A (Footprint not found)
pins: 1 PC6(~{RESET}), 2 PD0(RXD), 3 PD1(TXD), 4 PD2(INT0), 5 PD3(INT1), 6 PD4(XCK/T0), 7 VCC, 8 GND, 9 PB6(XTAL1/TOSC1), 10 PB7(XTAL2/TOSC2), 11 PD5(T1), 12 PD6(AIN0), 13 PD7(AIN1), 14 PB0(ICP1), 15 (OC1A)PB1, 16 (~{SS}/OC1B)PB2, 17 (MOSI/OC2A)PB3, 18 (MISO)PB4, 19 (SCK)PB5, 20 AVCC, 21 AREF, 22 GND, 23 (ADC0)PC0, 24 (ADC1)PC1, 25 (ADC2)PC2, 26 (ADC3)PC3, 27 (ADC4/SDA)PC4, 28 (ADC5/SCL)PC5

## MCU-ATmega328P-TQFP32
designator IC?, comment ATmega328P  (value not drawn)
footprint MCU-ATmega48PA (Footprint not found)
footprint MCU-ATmega48A (Footprint not found)
footprint MCU-ATmega328P (Footprint not found)
footprint MCU-ATmega88PA (Footprint not found)
footprint MCU-ATmega88A (Footprint not found)
footprint TQFP32-Package (Footprint not found)

## MCU-ATmega2560-TQFP100
designator IC?, comment ATmega2560  (value not drawn)
256Kb FLASH, 4Kb RAM, 8Kb EEPROM
footprint ATmega640 (Footprint not found)
footprint ATmega1280 (Footprint not found)
footprint TQFP100-Package
pins: 1 (OC0B)PG5, 2 PE0(RxD0/PCINT8), 3 PE1(TxD0), 4 PE2(XCK0/AIN0), 5 PE3(OC3A/AIN1), 6 PE4(OC3B/INT4), 7 PE5(OC3C/INT5), 8 PE6(T3/INT6), 9 PE7(CLKO/ICP3/INT7), 10 Vcc, 11 GND, 12 (RxD2)PH0, 13 (TxD2)PH1, 14 (XCK2)PH2, 15 (OC4A)PH3, 16 (OC4B)PH4, 17 (OC4C)PH5, 18 (OC2B)PH6, 19 PB0(~{SS}/PCINT0), 20 PB1(SCK/PCINT1), 21 PB2(MOSI/PCINT2), 22 PB3(MISO/PCINT3), 23 PB4(OC2A/PCINT4), 24 PB5(OC1A/PCINT5), 25 PB6(OC1B/PCINT6), 26 PB7(OC0A/OC1C/PCINT7), 27 (T4)PH7, 28 (TOSC2)PG3, 29 (TOSC1)PG4, 30 ~{Rese}t, 31 Vcc, 32 GND, 33 XTAL2, 34 XTAL1, 35 (ICP4)PL0, 36 (ICP5)PL1, 37 (T5)PL2, 38 (OC5A)PL3, 39 (OC5B)PL4, 40 (OC5C)PL5, 41 PL6, 42 PL7, 43 PD0(SCL/INT0), 44 PD1(SDA/INT1), 45 PD2(RxD1/INT2), 46 PD3(TxD1/INT3), 47 PD4(ICP1), 48 PD5(XCK1), 49 PD6(T1), 50 PD7(T0), 51 (~{WR})PG0, 52 (~{RD})PG1, 53 PC0(A8), 54 PC1(A9), 55 PC2(A10), 56 PC3(A11), 57 PC4(A12), 58 PC5(A13), 59 PC6(A14), 60 PC7(A15), 61 Vcc, 62 GND, 63 (RxD3/PCINT9)PJ0, 64 (TxD3/PCINT10)PJ1, 65 (XCK3/PCINT11)PJ2, 66 (PCINT12)PJ3, 67 (PCINT13)PJ4, 68 (PCINT14)PJ5, 69 (PCINT15)PJ6, 70 (ALE)PG2, 71 PA7(AD7), 72 PA6(AD6), 73 PA5(AD5), 74 PA4(AD4), 75 PA3(AD3), 76 PA2(AD2), 77 PA1(AD1), 78 PA0(AD0), 79 PJ7, 80 Vcc, 81 GND, 82 (ADC15/PCINT23)PK7, 83 (ADC14/PCINT22)PK6, 84 (ADC13/PCINT21)PK5, 85 (ADC12/PCINT20)PK4, 86 (ADC11/PCINT19)PK3, 87 (ADC10/PCINT18)PK2, 88 (ADC9/PCINT7)PK1, 89 (ADC8/PCINT6)PK0, 90 (ADC7/TDI)PF7, 91 (ADC6/TDO)PF6, 92 (ADC5/TMS)PF5, 93 (ADC4/TCK)PF4, 94 (ADC3)PF3, 95 (ADC2)PF2, 96 (ADC1)PF1, 97 (ADC0)PF0, 98 AREF, 99 GND, 100 AVCC
text: ATmega640\; ATmega1280\

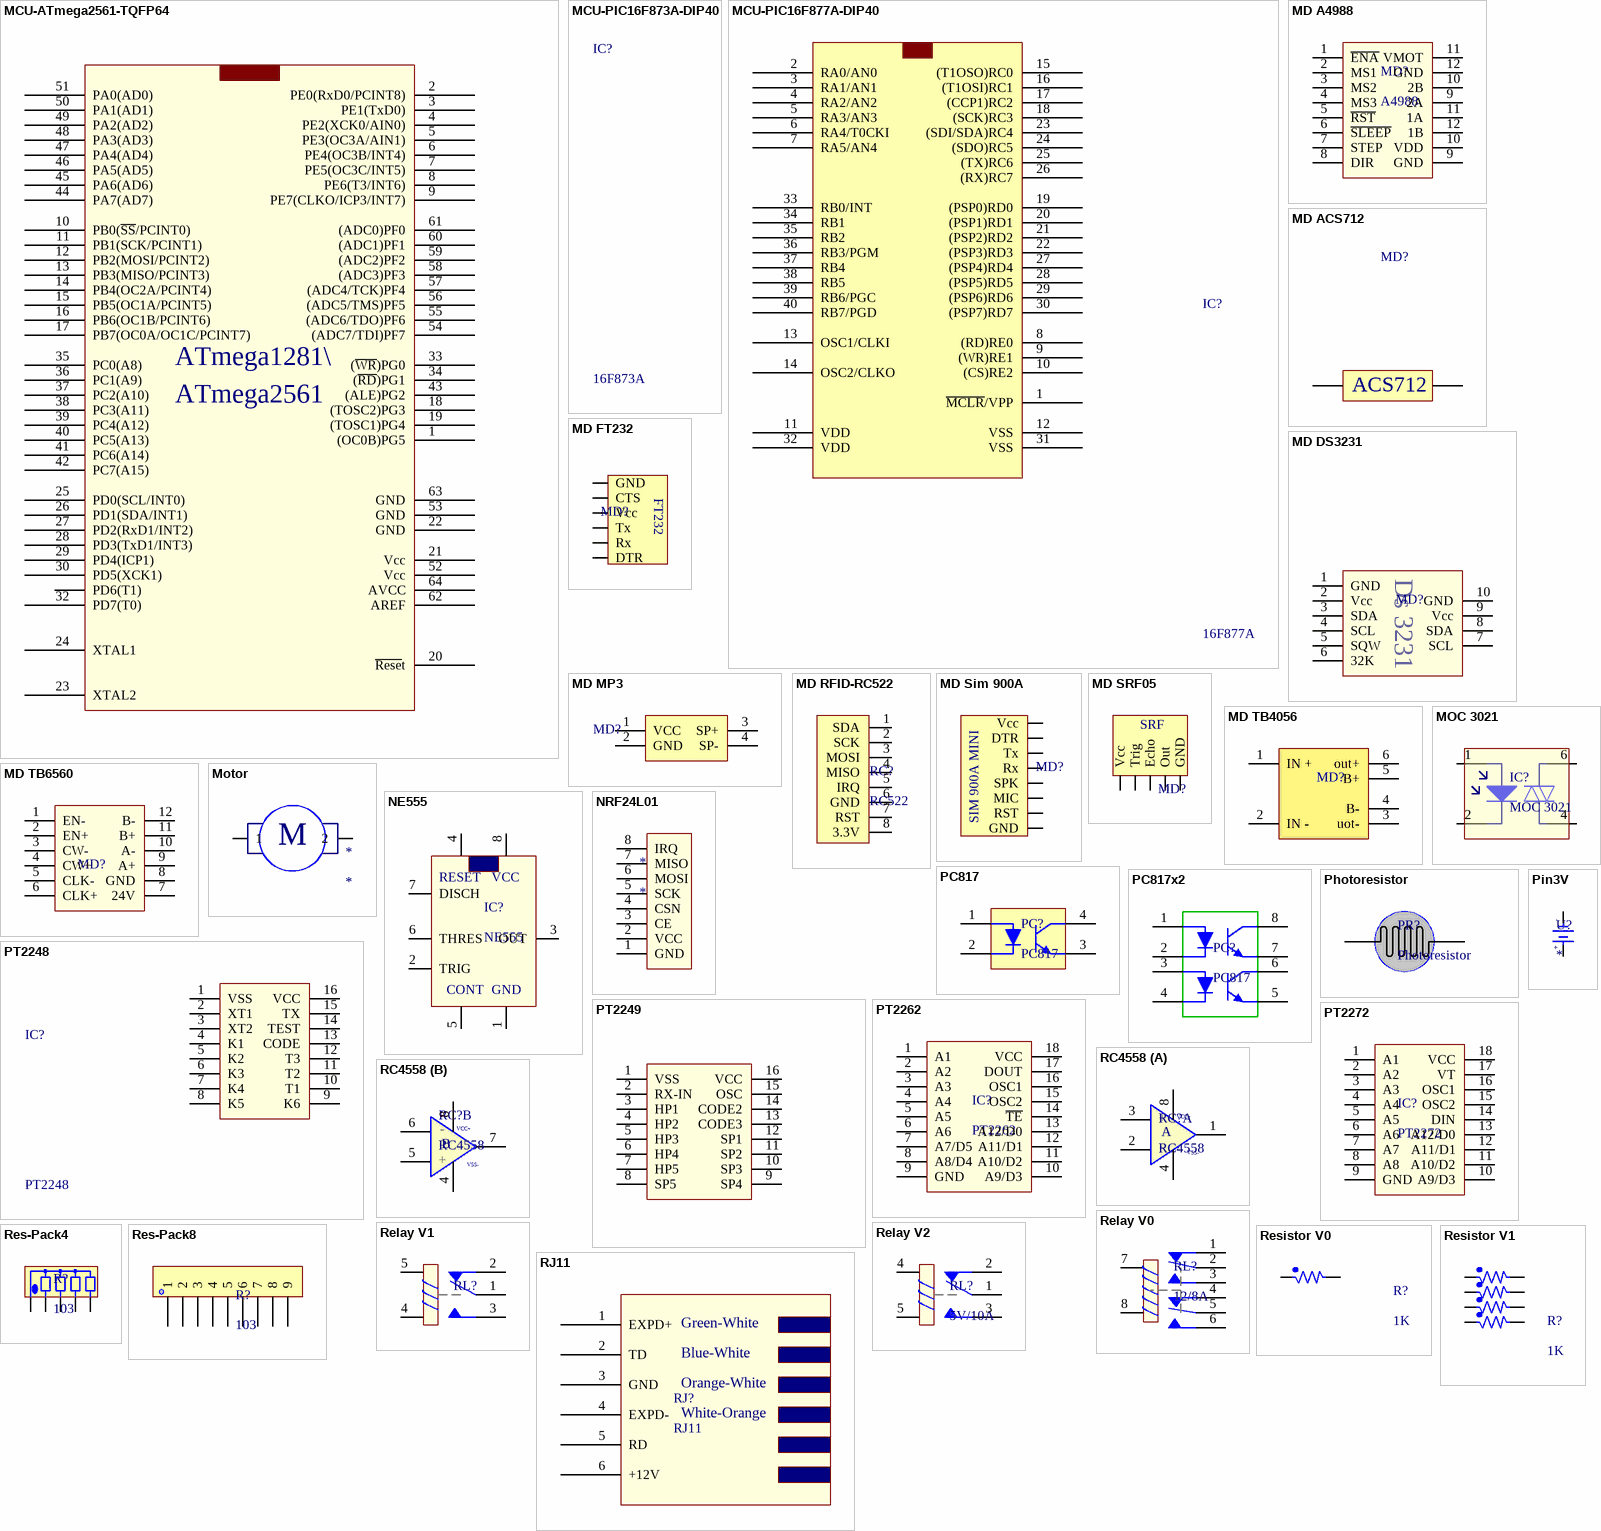
[diagram p7: symbols MCU-ATmega2561-TQFP64 to RJ11]

## MCU-ATmega2561-TQFP64
designator IC?, comment ATmega2561  (value not drawn)
256Kb FLASH, 4Kb RAM, 8Kb EEPROM
footprint ATmega1281 (Footprint not found)
footprint TQFP64-Package
pins: 1 (OC0B)PG5, 2 PE0(RxD0/PCINT8), 3 PE1(TxD0), 4 PE2(XCK0/AIN0), 5 PE3(OC3A/AIN1), 6 PE4(OC3B/INT4), 7 PE5(OC3C/INT5), 8 PE6(T3/INT6), 9 PE7(CLKO/ICP3/INT7), 10 PB0(~{SS}/PCINT0), 11 PB1(SCK/PCINT1), 12 PB2(MOSI/PCINT2), 13 PB3(MISO/PCINT3), 14 PB4(OC2A/PCINT4), 15 PB5(OC1A/PCINT5), 16 PB6(OC1B/PCINT6), 17 PB7(OC0A/OC1C/PCINT7), 18 (TOSC2)PG3, 19 (TOSC1)PG4, 20 ~{Rese}t, 21 Vcc, 22 GND, 23 XTAL2, 24 XTAL1, 25 PD0(SCL/INT0), 26 PD1(SDA/INT1), 27 PD2(RxD1/INT2), 28 PD3(TxD1/INT3), 29 PD4(ICP1), 30 PD5(XCK1), 31 PD6(T1), 32 PD7(T0), 33 (~{WR})PG0, 34 (~{RD})PG1, 35 PC0(A8), 36 PC1(A9), 37 PC2(A10), 38 PC3(A11), 39 PC4(A12), 40 PC5(A13), 41 PC6(A14), 42 PC7(A15), 43 (ALE)PG2, 44 PA7(AD7), 45 PA6(AD6), 46 PA5(AD5), 47 PA4(AD4), 48 PA3(AD3), 49 PA2(AD2), 50 PA1(AD1), 51 PA0(AD0), 52 Vcc, 53 GND, 54 (ADC7/TDI)PF7, 55 (ADC6/TDO)PF6, 56 (ADC5/TMS)PF5, 57 (ADC4/TCK)PF4, 58 (ADC3)PF3, 59 (ADC2)PF2, 60 (ADC1)PF1, 61 (ADC0)PF0, 62 AREF, 63 GND, 64 AVCC
text: ATmega1281\

## MCU-PIC16F873A-DIP40
designator IC?, comment 16F873A
7.2Kb FLASH, 192b RAM, 128b EEPROM; Value: PIC16F877A; Value: DIP 40; Copyright by: VanDungEvn
footprint MCU-DIP-PIC16F874A-V0 (Footprint not found)

## MCU-PIC16F877A-DIP40
designator IC?, comment 16F877A
14.3Kb FLASH, 368b RAM, 256b EEPROM; Value: PIC16F877A; Value: DIP 40; Copyright by: VanDungEvn
footprint DIP40-V0-Package
footprint MCU-DIP-PIC16F876A-V0 (Footprint not found)
pins: 1 ~{MCLR}/VPP, 2 RA0/AN0, 3 RA1/AN1, 4 RA2/AN2, 5 RA3/AN3, 6 RA4/T0CKI, 7 RA5/AN4, 8 (RD)RE0, 9 (WR)RE1, 10 (CS)RE2, 11 VDD, 12 VSS, 13 OSC1/CLKI, 14 OSC2/CLKO, 15 (T1OSO)RC0, 16 (T1OSI)RC1, 17 (CCP1)RC2, 18 (SCK)RC3, 19 (PSP0)RD0, 20 (PSP1)RD1, 21 (PSP2)RD2, 22 (PSP3)RD3, 23 (SDI/SDA)RC4, 24 (SDO)RC5, 25 (TX)RC6, 26 (RX)RC7, 27 (PSP4)RD4, 28 (PSP5)RD5, 29 (PSP6)RD6, 30 (PSP7)RD7, 31 VSS, 32 VDD, 33 RB0/INT, 34 RB1, 35 RB2, 36 RB3/PGM, 37 RB4, 38 RB5, 39 RB6/PGC, 40 RB7/PGD

## MD A4988
designator MD?, comment A4988
1A- Drive
footprint MD-A4988 (1A)
pins: 1 ~{ENA}, 2 MS1, 3 MS2, 4 MS3, 5 ~{RST}, 6 ~{SLEEP}, 7 STEP, 8 DIR, 9 GND, 9 2A, 10 VDD, 10 2B, 11 1A, 11 VMOT, 12 1B, 12 GND

## MD ACS712
designator MD?, comment ACS712  (value not drawn)
pins: 1, 2 NO1

## MD DS3231
designator MD?, comment DS3231  (value not drawn)
Read time clock
pins: 1 GND, 2 Vcc, 3 SDA, 4 SCL, 5 SQW, 6 32K, 7 SCL, 8 SDA, 9 Vcc, 10 GND
text: Ds 3231

## MD FT232
designator MD?, comment FT232  (value not drawn)
footprint MD-FT232-V0
footprint MD-FT232-V1
pins: 1 GND, 2 CTS, 3 Vcc, 4 Tx, 5 Rx, 6 DTR

## MD MP3
designator MD?, comment MP3  (value not drawn)
Giai ma mp3
footprint MD-MP3
pins: 1 VCC, 2 GND, 3 SP+, 4 SP-

## MD RFID-RC522
designator RC?, comment RC522
footprint MD-RFID-RC522 (3.3V)
pins: 1 SDA, 2 SCK, 3 MOSI, 4 MISO, 5 IRQ, 6 GND, 7 RST, 8 3.3V

## MD Sim 900A
designator MD?, comment Sim900A  (value not drawn)
Mini
footprint MD-SIM900 MINI
pins: 1 Vcc, 2 DTR, 3 Tx, 4 Rx, 5 SPK, 6 MIC, 7 RST, 8 GND
text: SIM 900A MINI

## MD SRF05
designator MD?, comment SRF05  (value not drawn)
footprint MD-SRF05
pins: 1 Vcc, 2 Trig, 3 Echo, 4 Out, 5 GND
text: SRF

## MD TB4056
designator MD?, comment TB4056  (value not drawn)
Power module
footprint MD-TB4056
pins: 1 IN +, 2 IN -, 3 uot-, 4 B-, 5 B+, 6 out+

## MD TB6560
designator MD?, comment TB6560  (value not drawn)
3A- Drive
footprint MD-TB6560 (3A)
pins: 1 EN-, 2 EN+, 3 CW-, 4 CW+, 5 CLK-, 6 CLK+, 7 24V, 8 GND, 9 A+, 10 A-, 11 B+, 12 B-

## MOC 3021
designator IC?
Triac
footprint DIP6-V0-Package
pins: 1, 2, 4 T1, 6 T2

## Motor
designator *
footprint HB9500-2P
pins: 1, 2
text: M

## NE555
designator IC?
footprint DIP8-V0-Package
pins: 1 GND, 2 TRIG, 3 OUT, 4 RESET, 5 CONT, 6 THRES, 7 DISCH, 8 VCC

## NRF24L01
designator *
footprint NRF24L01
pins: 1 GND, 2 VCC, 3 CE, 4 CSN, 5 SCK, 6 MOSI, 7 MISO, 8 IRQ

## PC817
designator PC?
NPN PHOTO General Purpose Amplifier
footprint DIP4-V0-Package
footprint DIP4-V1-Package
pins: 1, 2, 3, 4

## PC817x2
designator PC?, comment PC817
NPN PHOTO General Purpose Amplifier
footprint DIP8-V0-Package
pins: 1, 2, 3, 4, 5, 6, 7, 8

## Photoresistor
designator PR?
Creator: Bien Nguyen
pins: 1, 2

## Pin3V
designator U?
footprint Pin-A-SMD
footprint PIN CR1220
footprint PIN CR2032 DIP0
footprint PIN CR2032 DIP180
footprint PIN CR1220 DIP
footprint PIN CR2032 SMD0
footprint PIN CR2032 SMD1
pins: 1 +3V, 2 GND
text: -; +

## PT2248
designator IC?
Remote Control Tranmitter; Value: PT2248
footprint DIP16-V0-Package
pins: 1 VSS, 2 XT1, 3 XT2, 4 K1, 5 K2, 6 K3, 7 K4, 8 K5, 9 K6, 10 T1, 11 T2, 12 T3, 13 CODE, 14 TEST, 15 TX, 16 VCC

## PT2249
designator IC?
Remote Control Receiver; Value: PT2249
footprint DIP16-V0-Package
pins: 1 VSS, 2 RX-IN, 3 HP1, 4 HP2, 5 HP3, 6 HP4, 7 HP5, 8 SP5, 9 SP4, 10 SP3, 11 SP2, 12 SP1, 13 CODE3, 14 CODE2, 15 OSC, 16 VCC

## PT2262
designator IC?
Remote Control Encoder
footprint DIP18-V0-Package
pins: 1 A1, 2 A2, 3 A3, 4 A4, 5 A5, 6 A6, 7 A7/D5, 8 A8/D4, 9 GND, 10 A9/D3, 11 A10/D2, 12 A11/D1, 13 A12/D0, 14 ~{TE}, 15 OSC2, 16 OSC1, 17 DOUT, 18 VCC

## PT2272
designator IC?
Remote Control Decoder
footprint DIP18-V0-Package
pins: 1 A1, 2 A2, 3 A3, 4 A4, 5 A5, 6 A6, 7 A7, 8 A8, 9 GND, 10 A9/D3, 11 A10/D2, 12 A11/D1, 13 A12/D0, 14 DIN, 15 OSC2, 16 OSC1, 17 VT, 18 VCC

## RC4558
designator RC?
footprint DIP8-V0-Package
part A pins: 1, 2 -, 3 +, 4, 8
part B pins: 4, 5 +, 6 -, 7, 8
part A text: VCC+; A; VSS-
part B text: VCC+; B; VSS-

## Relay V0
designator RL?, comment 12/8A
footprint RELAY-V0
pins: 1, 2, 3, 4, 5, 6, 7, 8

## Relay V1
designator RL?, comment 5V/10A  (value not drawn)
5V/10A-12V/8A
footprint RELAY-V1
footprint RELAY-V2 (30A)
pins: 1, 2, 3, 4, 5

## Relay V2
designator RL?, comment 5V/10A
5V/10A-12V/8A
footprint RELAY-V1
pins: 1, 2, 3, 4, 5

## Res-Pack4
designator R?, comment 103
footprint RN4
pins: 1, 2, 3, 4, 5

## Res-Pack8
designator R?, comment 103
footprint RN8_1 (A001)
footprint RN8_2 (A001)
pins: 1, 2, 3, 4, 5, 6, 7, 8, 9

## Resistor V0
designator R?, comment 1K
footprint Resistor-Package_A_1/4W
footprint Resistor-Package_B_1/4W
footprint Resistor-Package_1/2W
footprint Resistor-Package_1/8W
footprint Resistor-Package_1W
footprint Resistor-Package_3W
footprint Resistor-Package_10W
footprint Resistor-Package_15W
footprint Resistor-Package_5W
footprint Resistor-Package-0603
footprint Resistor-Package-0805 (A001)
footprint Resistor-Package-1206 (A001)
footprint RX24-5W-Package
footprint RX24-10W-Package
footprint RX24-25W-Package
footprint RX24-50W-Package
pins: 1, 2

## Resistor V1
designator R?, comment 1K
footprint Resistor-Package_0603-TC164
footprint Resistor-Package_0603-YC164
pins: 1, 2, 3, 4, 5, 6, 7, 8

## RJ11
designator RJ?
footprint RJ11-V0
pins: 1 EXPD+, 2 TD, 3 GND, 4 EXPD-, 5 RD, 6 +12V
text: Green-White; Blue-White; Orange-White; White-Orange

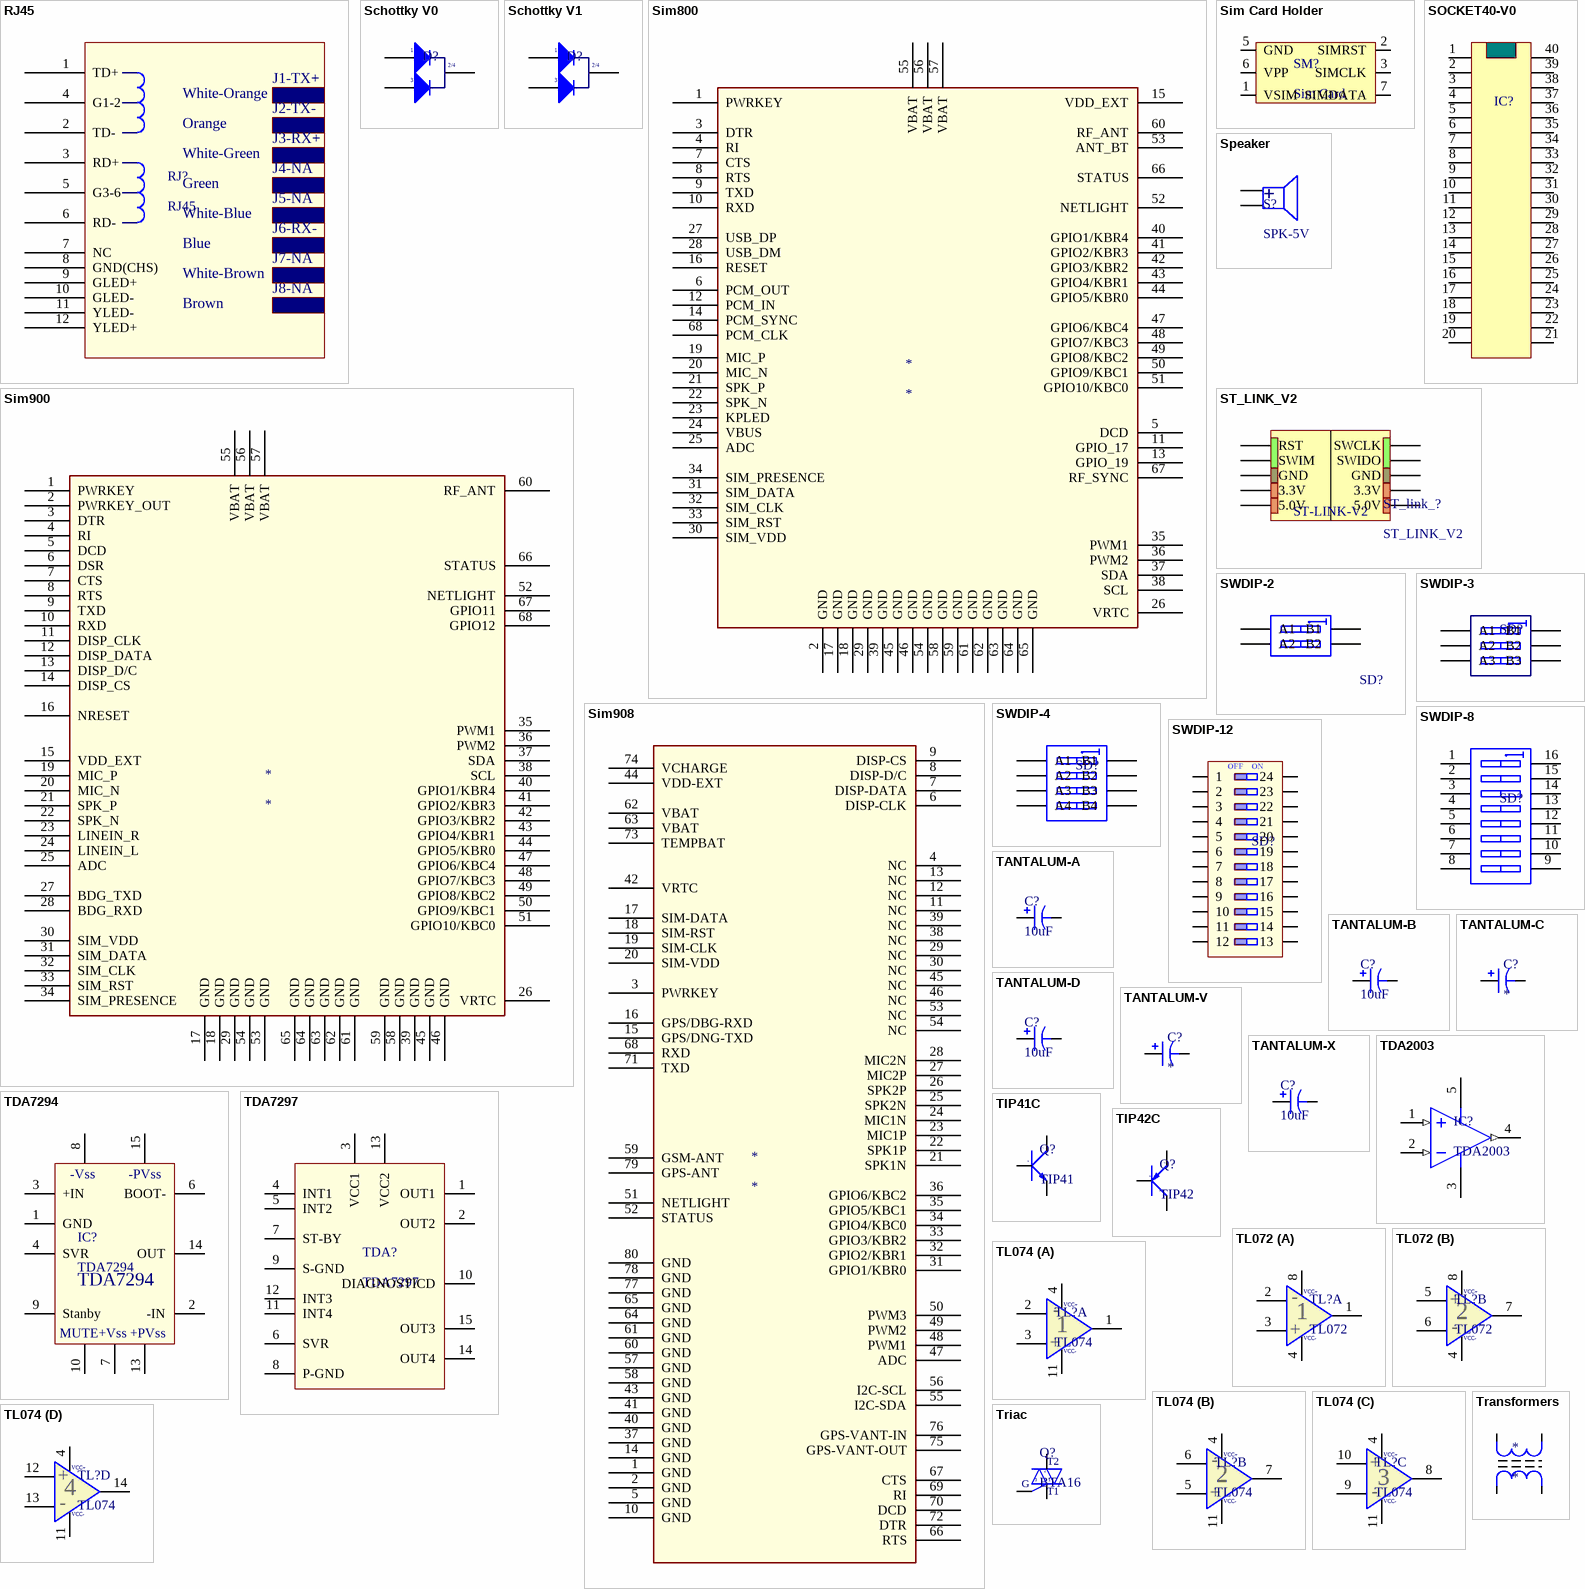
[diagram p8: symbols RJ45 to Triac]